# Altium integrated library lattice.IntLib: 34 symbols (part 1 of 3)
Pins are listed as number, name and electrical type; pins without a type are passive.

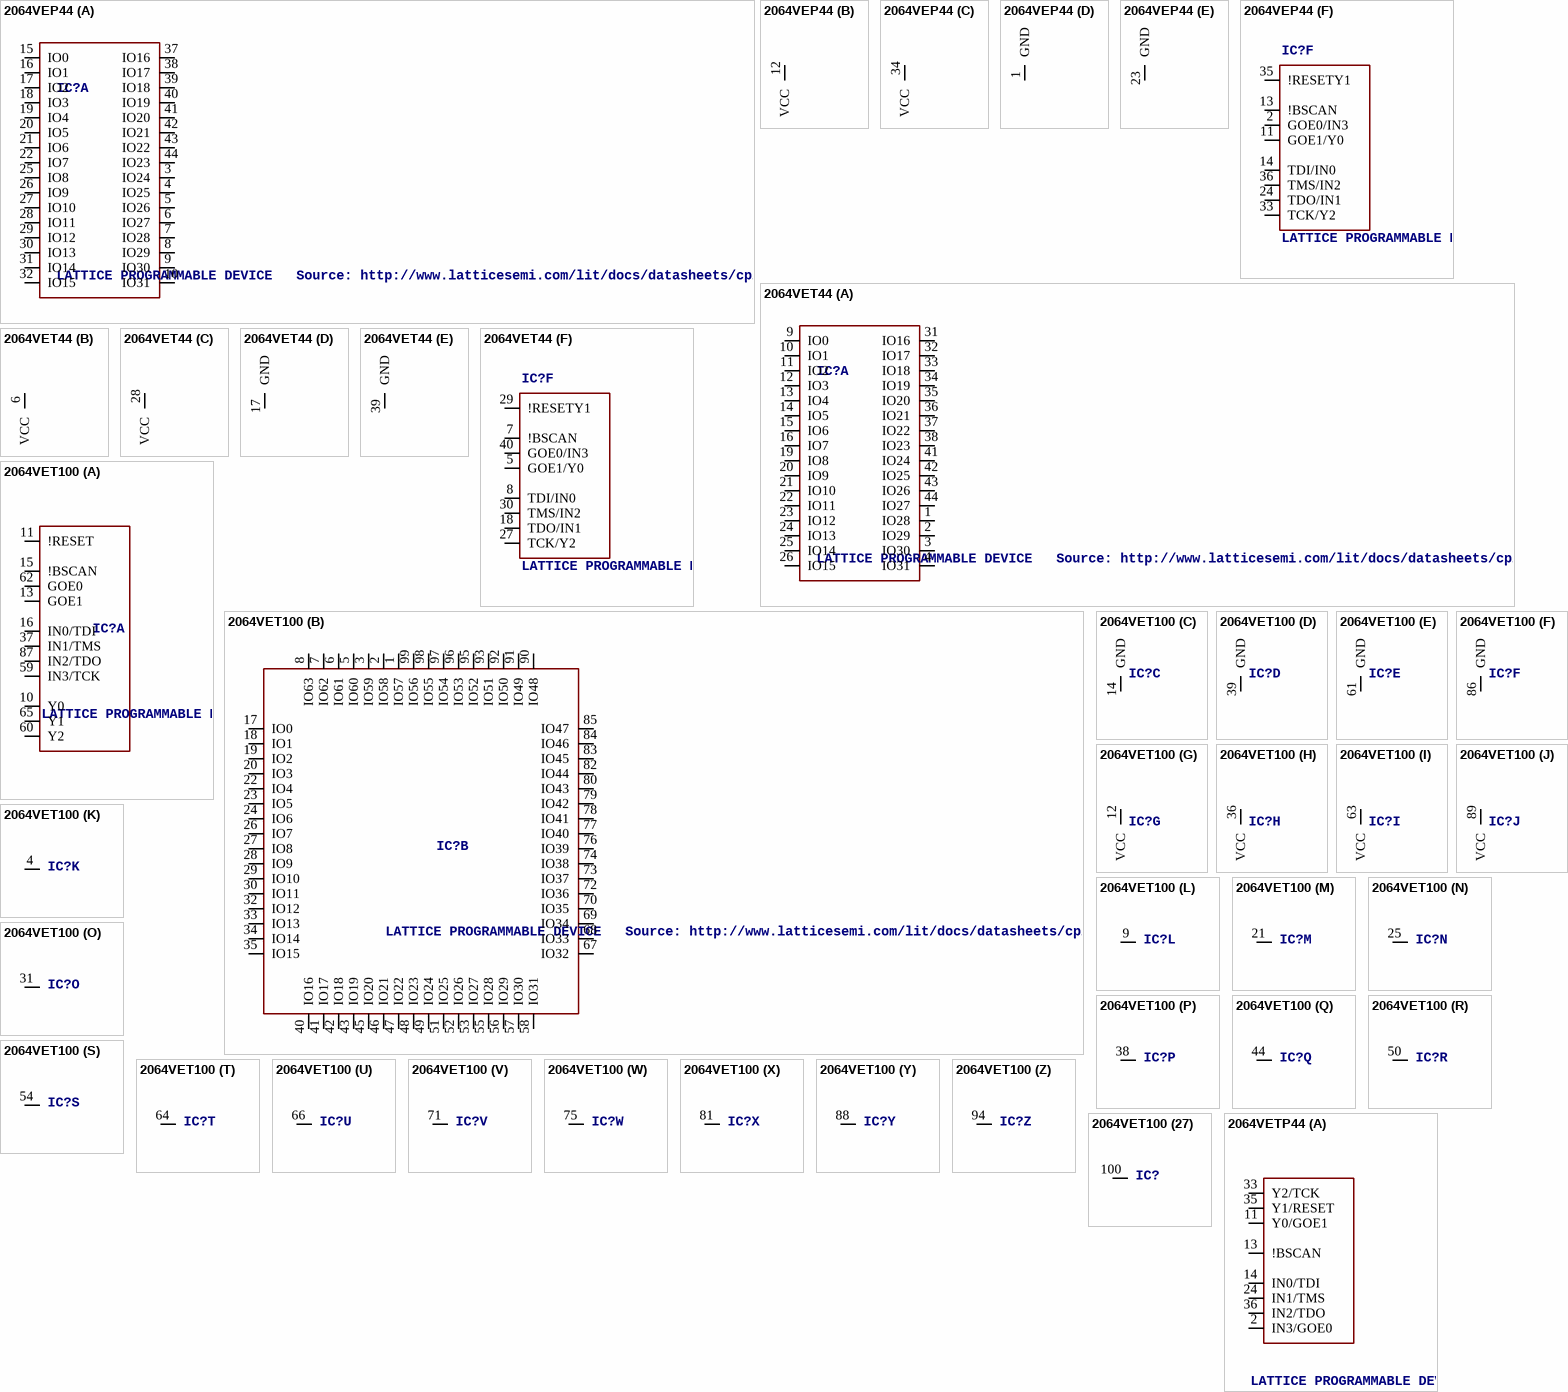
[diagram p0: symbols 2064VEP44 to 2064VETP44]

## 2064VEP44
designator IC?, comment LATTICE PROGRAMMABLE DEVICE   Source: http://www.latticesemi.com/lit/docs/datasheets/cpld/2064v.pdf / 2064ve.pdf
OC_FARNELL: unknown; OC_NEWARK: unknown
footprint PLCC44
part A pins: 3 IO24, 4 IO25, 5 IO26, 6 IO27, 7 IO28, 8 IO29, 9 IO30, 10 IO31, 15 IO0, 16 IO1, 17 IO2, 18 IO3, 19 IO4, 20 IO5, 21 IO6, 22 IO7, 25 IO8, 26 IO9, 27 IO10, 28 IO11, 29 IO12, 30 IO13, 31 IO14, 32 IO15, 37 IO16, 38 IO17, 39 IO18, 40 IO19, 41 IO20, 42 IO21, 43 IO22, 44 IO23
part B pins: 12 VCC (power)
part C pins: 34 VCC (power)
part D pins: 1 GND (power)
part E pins: 23 GND (power)
part F pins: 2 GOE0/IN3, 11 GOE1/Y0, 13 !BSCAN, 14 TDI/IN0, 24 TDO/IN1, 33 TCK/Y2, 35 !RESETY1, 36 TMS/IN2

## 2064VET44
designator IC?, comment LATTICE PROGRAMMABLE DEVICE   Source: http://www.latticesemi.com/lit/docs/datasheets/cpld/2064v.pdf / 2064ve.pdf
OC_FARNELL: unknown; OC_NEWARK: unknown
footprint TQFP44
part A pins: 1 IO28, 2 IO29, 3 IO30, 4 IO31, 9 IO0, 10 IO1, 11 IO2, 12 IO3, 13 IO4, 14 IO5, 15 IO6, 16 IO7, 19 IO8, 20 IO9, 21 IO10, 22 IO11, 23 IO12, 24 IO13, 25 IO14, 26 IO15, 31 IO16, 32 IO17, 33 IO18, 34 IO19, 35 IO20, 36 IO21, 37 IO22, 38 IO23, 41 IO24, 42 IO25, 43 IO26, 44 IO27
part B pins: 6 VCC (power)
part C pins: 28 VCC (power)
part D pins: 17 GND (power)
part E pins: 39 GND (power)
part F pins: 5 GOE1/Y0, 7 !BSCAN, 8 TDI/IN0, 18 TDO/IN1, 27 TCK/Y2, 29 !RESETY1, 30 TMS/IN2, 40 GOE0/IN3

## 2064VET100
designator IC?, comment LATTICE PROGRAMMABLE DEVICE   Source: http://www.latticesemi.com/lit/docs/datasheets/cpld/2064v.pdf / 2064ve.pdf
OC_FARNELL: unknown; OC_NEWARK: unknown
footprint TQFP100
part A pins: 10 Y0, 11 !RESET, 13 GOE1, 15 !BSCAN, 16 IN0/TDI, 37 IN1/TMS, 59 IN3/TCK, 60 Y2, 62 GOE0, 65 Y1, 87 IN2/TDO
part B pins: 1 IO57, 2 IO58, 3 IO59, 5 IO60, 6 IO61, 7 IO62, 8 IO63, 17 IO0, 18 IO1, 19 IO2, 20 IO3, 22 IO4, 23 IO5, 24 IO6, 26 IO7, 27 IO8, 28 IO9, 29 IO10, 30 IO11, 32 IO12, 33 IO13, 34 IO14, 35 IO15, 40 IO16, 41 IO17, 42 IO18, 43 IO19, 45 IO20, 46 IO21, 47 IO22, 48 IO23, 49 IO24, 51 IO25, 52 IO26, 53 IO27, 55 IO28, 56 IO29, 57 IO30, 58 IO31, 67 IO32, 68 IO33, 69 IO34, 70 IO35, 72 IO36, 73 IO37, 74 IO38, 76 IO39, 77 IO40, 78 IO41, 79 IO42, 80 IO43, 82 IO44, 83 IO45, 84 IO46, 85 IO47, 90 IO48, 91 IO49, 92 IO50, 93 IO51, 95 IO52, 96 IO53, 97 IO54, 98 IO55, 99 IO56
part C pins: 14 GND (power)
part D pins: 39 GND (power)
part E pins: 61 GND (power)
part F pins: 86 GND (power)
part G pins: 12 VCC (power)
part H pins: 36 VCC (power)
part I pins: 63 VCC (power)
part J pins: 89 VCC (power)
part K pins: 4 NC
part L pins: 9 NC
part M pins: 21 NC
part N pins: 25 NC
part O pins: 31 NC
part P pins: 38 NC
part Q pins: 44 NC
part R pins: 50 NC
part S pins: 54 NC
part T pins: 64 NC
part U pins: 66 NC
part V pins: 71 NC
part W pins: 75 NC
part X pins: 81 NC
part Y pins: 88 NC
part Z pins: 94 NC
part 27 pins: 100 NC

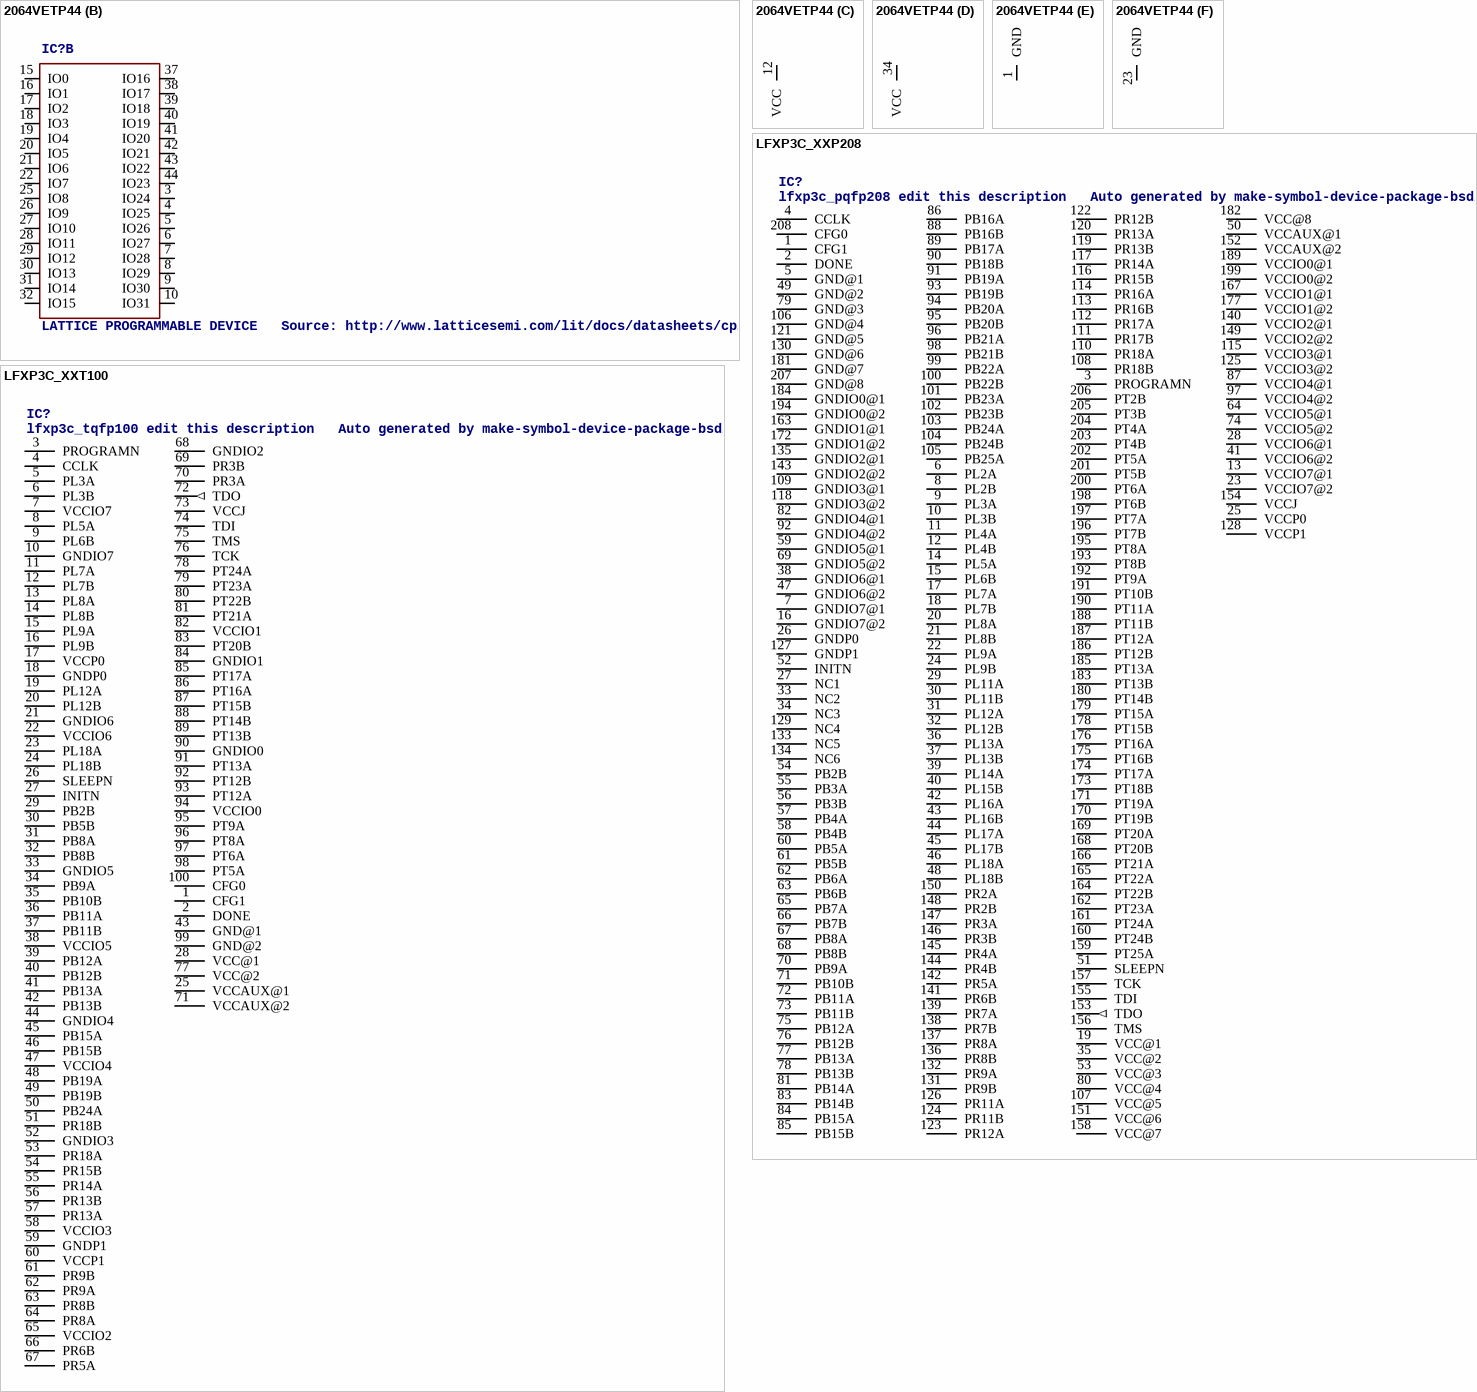
[diagram p1: symbols 2064VETP44 to LFXP3C_XXT100]

## 2064VETP44
designator IC?, comment LATTICE PROGRAMMABLE DEVICE   Source: http://www.latticesemi.com/lit/docs/datasheets/cpld/2064v.pdf / 2064ve.pdf
OC_FARNELL: unknown; OC_NEWARK: unknown
footprint PLCC44
part A pins: 2 IN3/GOE0, 11 Y0/GOE1, 13 !BSCAN, 14 IN0/TDI, 24 IN1/TMS, 33 Y2/TCK, 35 Y1/RESET, 36 IN2/TDO
part B pins: 3 IO24, 4 IO25, 5 IO26, 6 IO27, 7 IO28, 8 IO29, 9 IO30, 10 IO31, 15 IO0, 16 IO1, 17 IO2, 18 IO3, 19 IO4, 20 IO5, 21 IO6, 22 IO7, 25 IO8, 26 IO9, 27 IO10, 28 IO11, 29 IO12, 30 IO13, 31 IO14, 32 IO15, 37 IO16, 38 IO17, 39 IO18, 40 IO19, 41 IO20, 42 IO21, 43 IO22, 44 IO23
part C pins: 12 VCC (power)
part D pins: 34 VCC (power)
part E pins: 1 GND (power)
part F pins: 23 GND (power)

## LFXP3C_XXP208
designator IC?, comment lfxp3c_pqfp208 edit this description   Auto generated by make-symbol-device-package-bsdl.ulp Rev. 20 Source: lfxp3c_pqfp208.bsm
OC_FARNELL: unknown; OC_NEWARK: unknown
footprint PQFP_208
pins: 1 CFG1, 2 DONE, 3 PROGRAMN, 4 CCLK, 5 GND@1 (power), 6 PL2A, 7 GNDIO7@1 (power), 8 PL2B, 9 PL3A, 10 PL3B, 11 PL4A, 12 PL4B, 13 VCCIO7@1 (power), 14 PL5A, 15 PL6B, 16 GNDIO7@2 (power), 17 PL7A, 18 PL7B, 19 VCC@1 (power), 20 PL8A, 21 PL8B, 22 PL9A, 23 VCCIO7@2 (power), 24 PL9B, 25 VCCP0 (power), 26 GNDP0 (power), 27 NC1, 28 VCCIO6@1 (power), 29 PL11A, 30 PL11B, 31 PL12A, 32 PL12B, 33 NC2, 34 NC3, 35 VCC@2 (power), 36 PL13A, 37 PL13B, 38 GNDIO6@1 (power), 39 PL14A, 40 PL15B, 41 VCCIO6@2 (power), 42 PL16A, 43 PL16B, 44 PL17A, 45 PL17B, 46 PL18A, 47 GNDIO6@2 (power), 48 PL18B, 49 GND@2 (power), 50 VCCAUX@1 (power), 51 SLEEPN, 52 INITN, 53 VCC@3 (power), 54 PB2B, 55 PB3A, 56 PB3B, 57 PB4A, 58 PB4B, 59 GNDIO5@1 (power), 60 PB5A, 61 PB5B, 62 PB6A, 63 PB6B, 64 VCCIO5@1 (power), 65 PB7A, 66 PB7B, 67 PB8A, 68 PB8B, 69 GNDIO5@2 (power), 70 PB9A, 71 PB10B, 72 PB11A, 73 PB11B, 74 VCCIO5@2 (power), 75 PB12A, 76 PB12B, 77 PB13A, 78 PB13B, 79 GND@3 (power), 80 VCC@4 (power), 81 PB14A, 82 GNDIO4@1 (power), 83 PB14B, 84 PB15A, 85 PB15B, 86 PB16A, 87 VCCIO4@1 (power), 88 PB16B, 89 PB17A, 90 PB18B, 91 PB19A, 92 GNDIO4@2 (power), 93 PB19B, 94 PB20A, 95 PB20B, 96 PB21A, 97 VCCIO4@2 (power), 98 PB21B, 99 PB22A, 100 PB22B, 101 PB23A, 102 PB23B, 103 PB24A, 104 PB24B, 105 PB25A, 106 GND@4 (power), 107 VCC@5 (power), 108 PR18B, 109 GNDIO3@1 (power), 110 PR18A, 111 PR17B, 112 PR17A, 113 PR16B, 114 PR16A, 115 VCCIO3@1 (power), 116 PR15B, 117 PR14A, 118 GNDIO3@2 (power), 119 PR13B, 120 PR13A, 121 GND@5 (power), 122 PR12B, 123 PR12A, 124 PR11B, 125 VCCIO3@2 (power), 126 PR11A, 127 GNDP1 (power), 128 VCCP1 (power), 129 NC4, 130 GND@6 (power), 131 PR9B, 132 PR9A, 133 NC5, 134 NC6, 135 GNDIO2@1 (power), 136 PR8B, 137 PR8A, 138 PR7B, 139 PR7A, 140 VCCIO2@1 (power), 141 PR6B, 142 PR5A, 143 GNDIO2@2 (power), 144 PR4B, 145 PR4A, 146 PR3B, 147 PR3A, 148 PR2B, 149 VCCIO2@2 (power), 150 PR2A, 151 VCC@6 (power), 152 VCCAUX@2 (power), 153 TDO (out), 154 VCCJ (power), 155 TDI, 156 TMS, 157 TCK, 158 VCC@7 (power), 159 PT25A, 160 PT24B, 161 PT24A, 162 PT23A, 163 GNDIO1@1 (power), 164 PT22B, 165 PT22A, 166 PT21A, 167 VCCIO1@1 (power), 168 PT20B, 169 PT20A, 170 PT19B, 171 PT19A, 172 GNDIO1@2 (power), 173 PT18B, 174 PT17A, 175 PT16B, 176 PT16A, 177 VCCIO1@2 (power), 178 PT15B, 179 PT15A, 180 PT14B, 181 GND@7 (power), 182 VCC@8 (power), 183 PT13B, 184 GNDIO0@1 (power), 185 PT13A, 186 PT12B, 187 PT12A, 188 PT11B, 189 VCCIO0@1 (power), 190 PT11A, 191 PT10B, 192 PT9A, 193 PT8B, 194 GNDIO0@2 (power), 195 PT8A, 196 PT7B, 197 PT7A, 198 PT6B, 199 VCCIO0@2 (power), 200 PT6A, 201 PT5B, 202 PT5A, 203 PT4B, 204 PT4A, 205 PT3B, 206 PT2B, 207 GND@8 (power), 208 CFG0

## LFXP3C_XXT100
designator IC?, comment lfxp3c_tqfp100 edit this description   Auto generated by make-symbol-device-package-bsdl.ulp Rev. 20 Source: lfxp3c_tqfp100.bsm
OC_FARNELL: unknown; OC_NEWARK: unknown
footprint TQFP100
pins: 1 CFG1, 2 DONE, 3 PROGRAMN, 4 CCLK, 5 PL3A, 6 PL3B, 7 VCCIO7 (power), 8 PL5A, 9 PL6B, 10 GNDIO7 (power), 11 PL7A, 12 PL7B, 13 PL8A, 14 PL8B, 15 PL9A, 16 PL9B, 17 VCCP0 (power), 18 GNDP0 (power), 19 PL12A, 20 PL12B, 21 GNDIO6 (power), 22 VCCIO6 (power), 23 PL18A, 24 PL18B, 25 VCCAUX@1 (power), 26 SLEEPN, 27 INITN, 28 VCC@1 (power), 29 PB2B, 30 PB5B, 31 PB8A, 32 PB8B, 33 GNDIO5 (power), 34 PB9A, 35 PB10B, 36 PB11A, 37 PB11B, 38 VCCIO5 (power), 39 PB12A, 40 PB12B, 41 PB13A, 42 PB13B, 43 GND@1 (power), 44 GNDIO4 (power), 45 PB15A, 46 PB15B, 47 VCCIO4 (power), 48 PB19A, 49 PB19B, 50 PB24A, 51 PR18B, 52 GNDIO3 (power), 53 PR18A, 54 PR15B, 55 PR14A, 56 PR13B, 57 PR13A, 58 VCCIO3 (power), 59 GNDP1 (power), 60 VCCP1 (power), 61 PR9B, 62 PR9A, 63 PR8B, 64 PR8A, 65 VCCIO2 (power), 66 PR6B, 67 PR5A, 68 GNDIO2 (power), 69 PR3B, 70 PR3A, 71 VCCAUX@2 (power), 72 TDO (out), 73 VCCJ (power), 74 TDI, 75 TMS, 76 TCK, 77 VCC@2 (power), 78 PT24A, 79 PT23A, 80 PT22B, 81 PT21A, 82 VCCIO1 (power), 83 PT20B, 84 GNDIO1 (power), 85 PT17A, 86 PT16A, 87 PT15B, 88 PT14B, 89 PT13B, 90 GNDIO0 (power), 91 PT13A, 92 PT12B, 93 PT12A, 94 VCCIO0 (power), 95 PT9A, 96 PT8A, 97 PT6A, 98 PT5A, 99 GND@2 (power), 100 CFG0

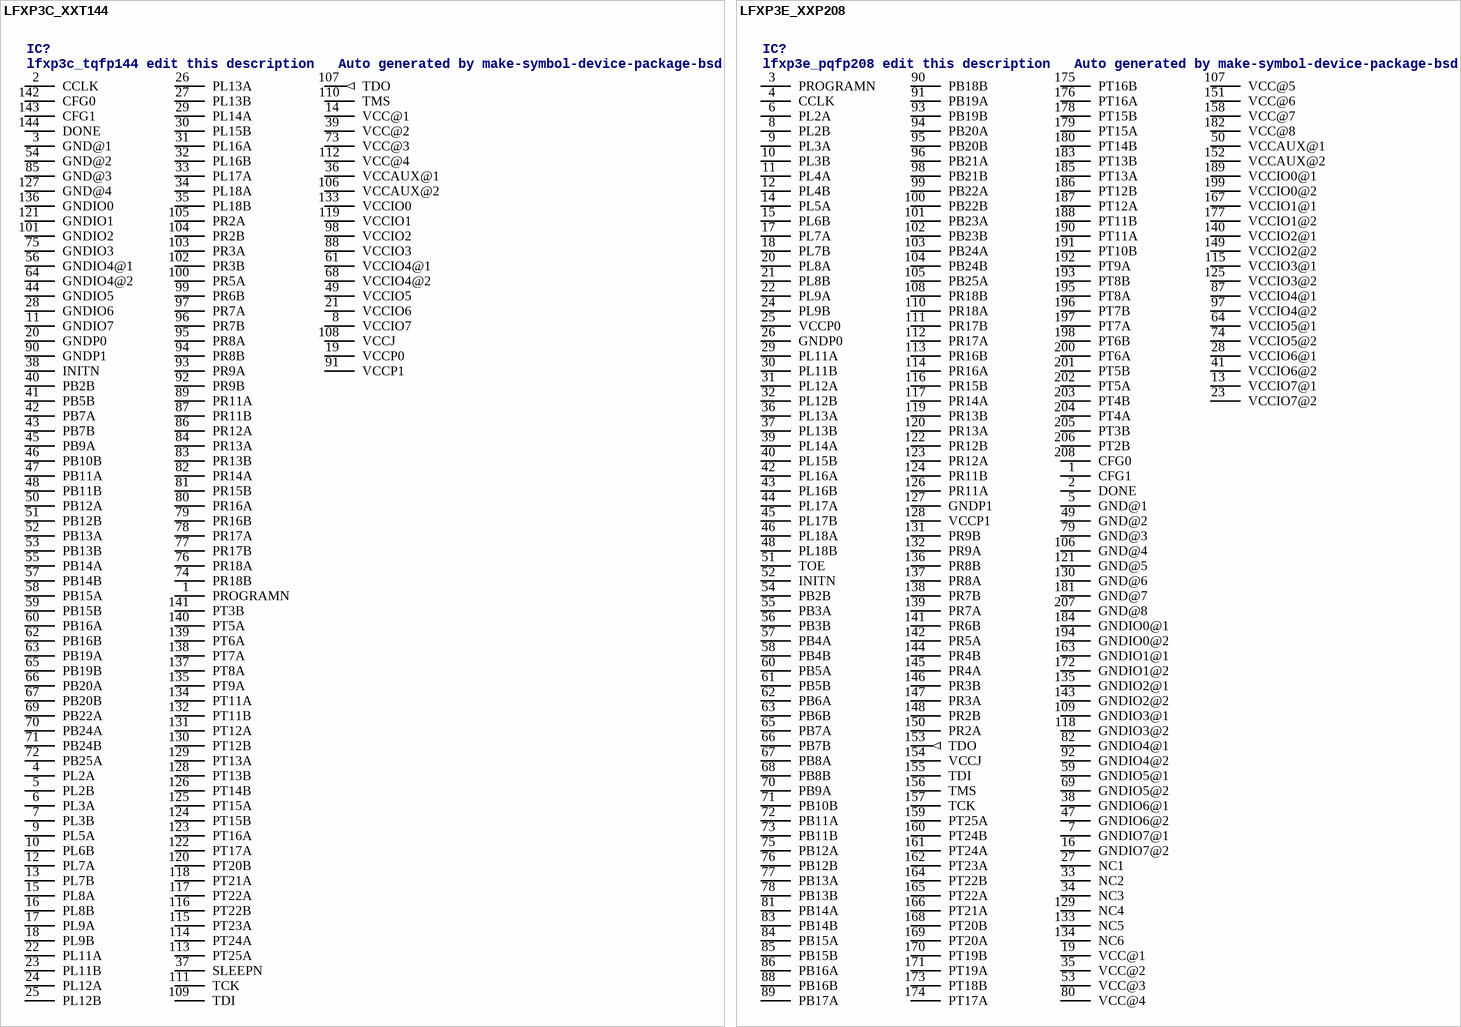
[diagram p2: symbols LFXP3C_XXT144 to LFXP3E_XXP208]

## LFXP3C_XXT144
designator IC?, comment lfxp3c_tqfp144 edit this description   Auto generated by make-symbol-device-package-bsdl.ulp Rev. 20 Source: lfxp3c_tqfp144.bsm
OC_FARNELL: unknown; OC_NEWARK: unknown
footprint TQFP144
pins: 1 PROGRAMN, 2 CCLK, 3 GND@1 (power), 4 PL2A, 5 PL2B, 6 PL3A, 7 PL3B, 8 VCCIO7 (power), 9 PL5A, 10 PL6B, 11 GNDIO7 (power), 12 PL7A, 13 PL7B, 14 VCC@1 (power), 15 PL8A, 16 PL8B, 17 PL9A, 18 PL9B, 19 VCCP0 (power), 20 GNDP0 (power), 21 VCCIO6 (power), 22 PL11A, 23 PL11B, 24 PL12A, 25 PL12B, 26 PL13A, 27 PL13B, 28 GNDIO6 (power), 29 PL14A, 30 PL15B, 31 PL16A, 32 PL16B, 33 PL17A, 34 PL18A, 35 PL18B, 36 VCCAUX@1 (power), 37 SLEEPN, 38 INITN, 39 VCC@2 (power), 40 PB2B, 41 PB5B, 42 PB7A, 43 PB7B, 44 GNDIO5 (power), 45 PB9A, 46 PB10B, 47 PB11A, 48 PB11B, 49 VCCIO5 (power), 50 PB12A, 51 PB12B, 52 PB13A, 53 PB13B, 54 GND@2 (power), 55 PB14A, 56 GNDIO4@1 (power), 57 PB14B, 58 PB15A, 59 PB15B, 60 PB16A, 61 VCCIO4@1 (power), 62 PB16B, 63 PB19A, 64 GNDIO4@2 (power), 65 PB19B, 66 PB20A, 67 PB20B, 68 VCCIO4@2 (power), 69 PB22A, 70 PB24A, 71 PB24B, 72 PB25A, 73 VCC@3 (power), 74 PR18B, 75 GNDIO3 (power), 76 PR18A, 77 PR17B, 78 PR17A, 79 PR16B, 80 PR16A, 81 PR15B, 82 PR14A, 83 PR13B, 84 PR13A, 85 GND@3 (power), 86 PR12A, 87 PR11B, 88 VCCIO3 (power), 89 PR11A, 90 GNDP1 (power), 91 VCCP1 (power), 92 PR9B, 93 PR9A, 94 PR8B, 95 PR8A, 96 PR7B, 97 PR7A, 98 VCCIO2 (power), 99 PR6B, 100 PR5A, 101 GNDIO2 (power), 102 PR3B, 103 PR3A, 104 PR2B, 105 PR2A, 106 VCCAUX@2 (power), 107 TDO (out), 108 VCCJ (power), 109 TDI, 110 TMS, 111 TCK, 112 VCC@4 (power), 113 PT25A, 114 PT24A, 115 PT23A, 116 PT22B, 117 PT22A, 118 PT21A, 119 VCCIO1 (power), 120 PT20B, 121 GNDIO1 (power), 122 PT17A, 123 PT16A, 124 PT15B, 125 PT15A, 126 PT14B, 127 GND@4 (power), 128 PT13B, 129 PT13A, 130 PT12B, 131 PT12A, 132 PT11B, 133 VCCIO0 (power), 134 PT11A, 135 PT9A, 136 GNDIO0 (power), 137 PT8A, 138 PT7A, 139 PT6A, 140 PT5A, 141 PT3B, 142 CFG0, 143 CFG1, 144 DONE

## LFXP3E_XXP208
designator IC?, comment lfxp3e_pqfp208 edit this description   Auto generated by make-symbol-device-package-bsdl.ulp Rev. 20 Source: lfxp3e_pqfp208.bsm
OC_FARNELL: unknown; OC_NEWARK: unknown
footprint PQFP_208
pins: 1 CFG1, 2 DONE, 3 PROGRAMN, 4 CCLK, 5 GND@1 (power), 6 PL2A, 7 GNDIO7@1 (power), 8 PL2B, 9 PL3A, 10 PL3B, 11 PL4A, 12 PL4B, 13 VCCIO7@1 (power), 14 PL5A, 15 PL6B, 16 GNDIO7@2 (power), 17 PL7A, 18 PL7B, 19 VCC@1 (power), 20 PL8A, 21 PL8B, 22 PL9A, 23 VCCIO7@2 (power), 24 PL9B, 25 VCCP0 (power), 26 GNDP0 (power), 27 NC1, 28 VCCIO6@1 (power), 29 PL11A, 30 PL11B, 31 PL12A, 32 PL12B, 33 NC2, 34 NC3, 35 VCC@2 (power), 36 PL13A, 37 PL13B, 38 GNDIO6@1 (power), 39 PL14A, 40 PL15B, 41 VCCIO6@2 (power), 42 PL16A, 43 PL16B, 44 PL17A, 45 PL17B, 46 PL18A, 47 GNDIO6@2 (power), 48 PL18B, 49 GND@2 (power), 50 VCCAUX@1 (power), 51 TOE, 52 INITN, 53 VCC@3 (power), 54 PB2B, 55 PB3A, 56 PB3B, 57 PB4A, 58 PB4B, 59 GNDIO5@1 (power), 60 PB5A, 61 PB5B, 62 PB6A, 63 PB6B, 64 VCCIO5@1 (power), 65 PB7A, 66 PB7B, 67 PB8A, 68 PB8B, 69 GNDIO5@2 (power), 70 PB9A, 71 PB10B, 72 PB11A, 73 PB11B, 74 VCCIO5@2 (power), 75 PB12A, 76 PB12B, 77 PB13A, 78 PB13B, 79 GND@3 (power), 80 VCC@4 (power), 81 PB14A, 82 GNDIO4@1 (power), 83 PB14B, 84 PB15A, 85 PB15B, 86 PB16A, 87 VCCIO4@1 (power), 88 PB16B, 89 PB17A, 90 PB18B, 91 PB19A, 92 GNDIO4@2 (power), 93 PB19B, 94 PB20A, 95 PB20B, 96 PB21A, 97 VCCIO4@2 (power), 98 PB21B, 99 PB22A, 100 PB22B, 101 PB23A, 102 PB23B, 103 PB24A, 104 PB24B, 105 PB25A, 106 GND@4 (power), 107 VCC@5 (power), 108 PR18B, 109 GNDIO3@1 (power), 110 PR18A, 111 PR17B, 112 PR17A, 113 PR16B, 114 PR16A, 115 VCCIO3@1 (power), 116 PR15B, 117 PR14A, 118 GNDIO3@2 (power), 119 PR13B, 120 PR13A, 121 GND@5 (power), 122 PR12B, 123 PR12A, 124 PR11B, 125 VCCIO3@2 (power), 126 PR11A, 127 GNDP1 (power), 128 VCCP1 (power), 129 NC4, 130 GND@6 (power), 131 PR9B, 132 PR9A, 133 NC5, 134 NC6, 135 GNDIO2@1 (power), 136 PR8B, 137 PR8A, 138 PR7B, 139 PR7A, 140 VCCIO2@1 (power), 141 PR6B, 142 PR5A, 143 GNDIO2@2 (power), 144 PR4B, 145 PR4A, 146 PR3B, 147 PR3A, 148 PR2B, 149 VCCIO2@2 (power), 150 PR2A, 151 VCC@6 (power), 152 VCCAUX@2 (power), 153 TDO (out), 154 VCCJ (power), 155 TDI, 156 TMS, 157 TCK, 158 VCC@7 (power), 159 PT25A, 160 PT24B, 161 PT24A, 162 PT23A, 163 GNDIO1@1 (power), 164 PT22B, 165 PT22A, 166 PT21A, 167 VCCIO1@1 (power), 168 PT20B, 169 PT20A, 170 PT19B, 171 PT19A, 172 GNDIO1@2 (power), 173 PT18B, 174 PT17A, 175 PT16B, 176 PT16A, 177 VCCIO1@2 (power), 178 PT15B, 179 PT15A, 180 PT14B, 181 GND@7 (power), 182 VCC@8 (power), 183 PT13B, 184 GNDIO0@1 (power), 185 PT13A, 186 PT12B, 187 PT12A, 188 PT11B, 189 VCCIO0@1 (power), 190 PT11A, 191 PT10B, 192 PT9A, 193 PT8B, 194 GNDIO0@2 (power), 195 PT8A, 196 PT7B, 197 PT7A, 198 PT6B, 199 VCCIO0@2 (power), 200 PT6A, 201 PT5B, 202 PT5A, 203 PT4B, 204 PT4A, 205 PT3B, 206 PT2B, 207 GND@8 (power), 208 CFG0

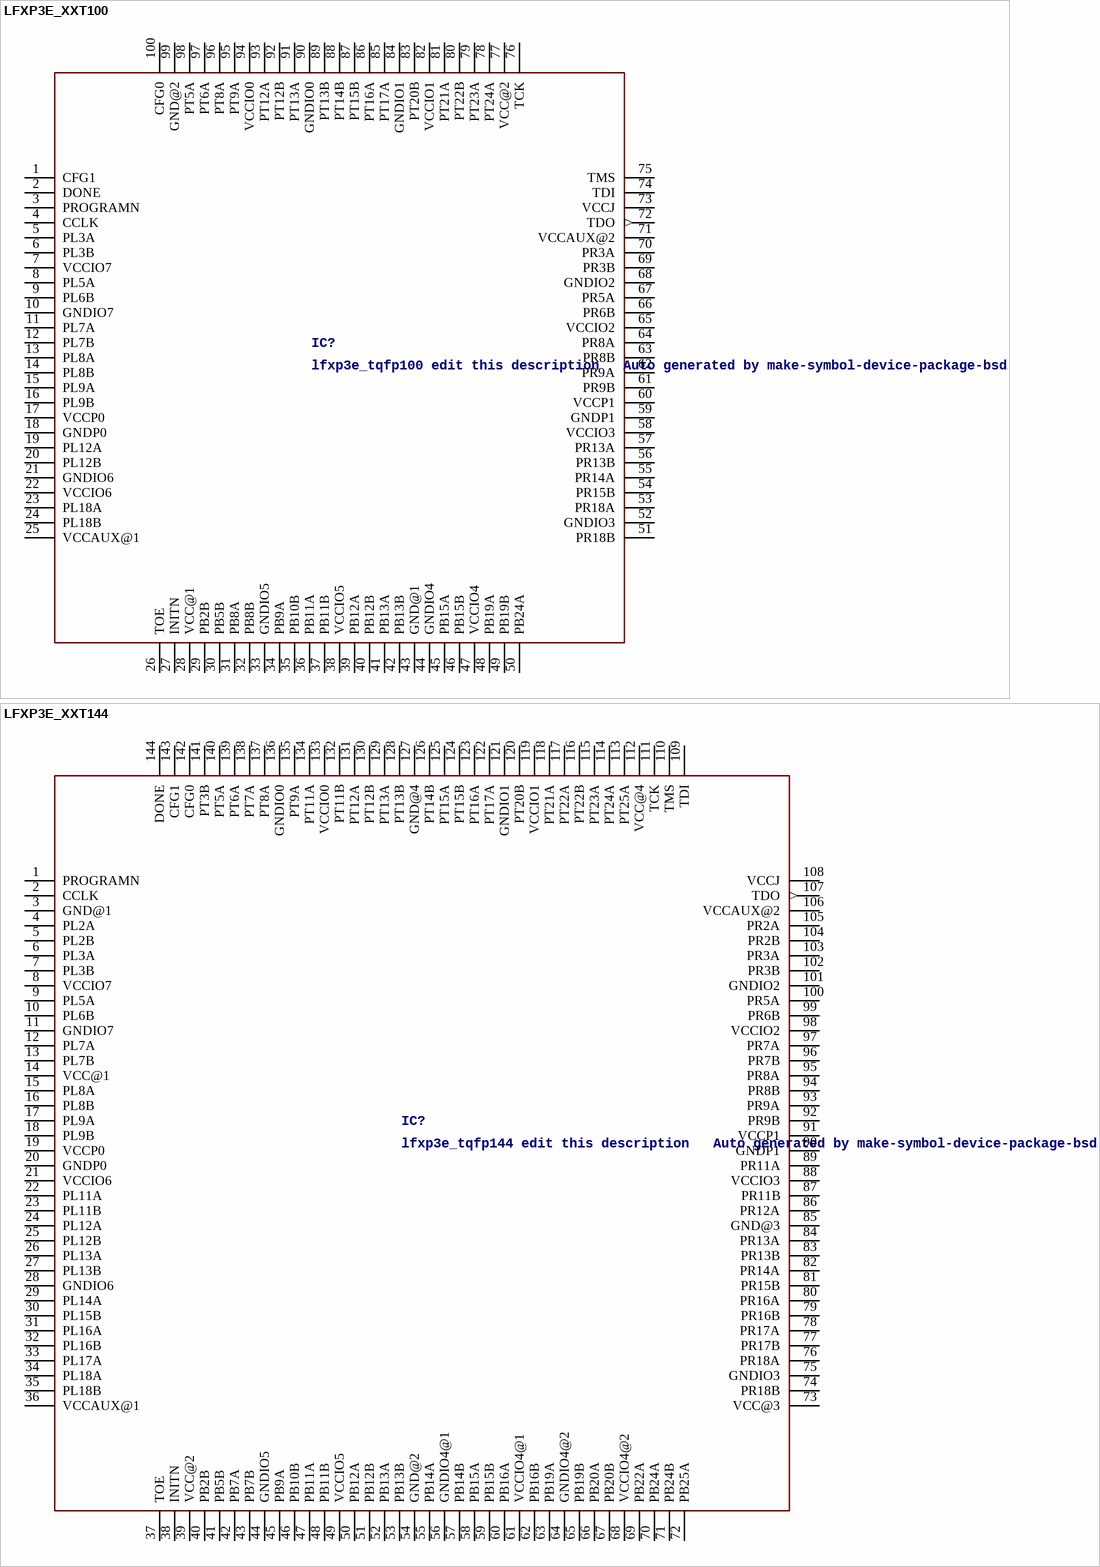
[diagram p3: symbols LFXP3E_XXT100 to LFXP3E_XXT144]

## LFXP3E_XXT100
designator IC?, comment lfxp3e_tqfp100 edit this description   Auto generated by make-symbol-device-package-bsdl.ulp Rev. 20 Source: lfxp3e_tqfp100.bsm
OC_FARNELL: unknown; OC_NEWARK: unknown
footprint TQFP100
pins: 1 CFG1, 2 DONE, 3 PROGRAMN, 4 CCLK, 5 PL3A, 6 PL3B, 7 VCCIO7 (power), 8 PL5A, 9 PL6B, 10 GNDIO7 (power), 11 PL7A, 12 PL7B, 13 PL8A, 14 PL8B, 15 PL9A, 16 PL9B, 17 VCCP0 (power), 18 GNDP0 (power), 19 PL12A, 20 PL12B, 21 GNDIO6 (power), 22 VCCIO6 (power), 23 PL18A, 24 PL18B, 25 VCCAUX@1 (power), 26 TOE, 27 INITN, 28 VCC@1 (power), 29 PB2B, 30 PB5B, 31 PB8A, 32 PB8B, 33 GNDIO5 (power), 34 PB9A, 35 PB10B, 36 PB11A, 37 PB11B, 38 VCCIO5 (power), 39 PB12A, 40 PB12B, 41 PB13A, 42 PB13B, 43 GND@1 (power), 44 GNDIO4 (power), 45 PB15A, 46 PB15B, 47 VCCIO4 (power), 48 PB19A, 49 PB19B, 50 PB24A, 51 PR18B, 52 GNDIO3 (power), 53 PR18A, 54 PR15B, 55 PR14A, 56 PR13B, 57 PR13A, 58 VCCIO3 (power), 59 GNDP1 (power), 60 VCCP1 (power), 61 PR9B, 62 PR9A, 63 PR8B, 64 PR8A, 65 VCCIO2 (power), 66 PR6B, 67 PR5A, 68 GNDIO2 (power), 69 PR3B, 70 PR3A, 71 VCCAUX@2 (power), 72 TDO (out), 73 VCCJ (power), 74 TDI, 75 TMS, 76 TCK, 77 VCC@2 (power), 78 PT24A, 79 PT23A, 80 PT22B, 81 PT21A, 82 VCCIO1 (power), 83 PT20B, 84 GNDIO1 (power), 85 PT17A, 86 PT16A, 87 PT15B, 88 PT14B, 89 PT13B, 90 GNDIO0 (power), 91 PT13A, 92 PT12B, 93 PT12A, 94 VCCIO0 (power), 95 PT9A, 96 PT8A, 97 PT6A, 98 PT5A, 99 GND@2 (power), 100 CFG0

## LFXP3E_XXT144
designator IC?, comment lfxp3e_tqfp144 edit this description   Auto generated by make-symbol-device-package-bsdl.ulp Rev. 20 Source: lfxp3e_tqfp144.bsm
OC_FARNELL: unknown; OC_NEWARK: unknown
footprint TQFP144
pins: 1 PROGRAMN, 2 CCLK, 3 GND@1 (power), 4 PL2A, 5 PL2B, 6 PL3A, 7 PL3B, 8 VCCIO7 (power), 9 PL5A, 10 PL6B, 11 GNDIO7 (power), 12 PL7A, 13 PL7B, 14 VCC@1 (power), 15 PL8A, 16 PL8B, 17 PL9A, 18 PL9B, 19 VCCP0 (power), 20 GNDP0 (power), 21 VCCIO6 (power), 22 PL11A, 23 PL11B, 24 PL12A, 25 PL12B, 26 PL13A, 27 PL13B, 28 GNDIO6 (power), 29 PL14A, 30 PL15B, 31 PL16A, 32 PL16B, 33 PL17A, 34 PL18A, 35 PL18B, 36 VCCAUX@1 (power), 37 TOE, 38 INITN, 39 VCC@2 (power), 40 PB2B, 41 PB5B, 42 PB7A, 43 PB7B, 44 GNDIO5 (power), 45 PB9A, 46 PB10B, 47 PB11A, 48 PB11B, 49 VCCIO5 (power), 50 PB12A, 51 PB12B, 52 PB13A, 53 PB13B, 54 GND@2 (power), 55 PB14A, 56 GNDIO4@1 (power), 57 PB14B, 58 PB15A, 59 PB15B, 60 PB16A, 61 VCCIO4@1 (power), 62 PB16B, 63 PB19A, 64 GNDIO4@2 (power), 65 PB19B, 66 PB20A, 67 PB20B, 68 VCCIO4@2 (power), 69 PB22A, 70 PB24A, 71 PB24B, 72 PB25A, 73 VCC@3 (power), 74 PR18B, 75 GNDIO3 (power), 76 PR18A, 77 PR17B, 78 PR17A, 79 PR16B, 80 PR16A, 81 PR15B, 82 PR14A, 83 PR13B, 84 PR13A, 85 GND@3 (power), 86 PR12A, 87 PR11B, 88 VCCIO3 (power), 89 PR11A, 90 GNDP1 (power), 91 VCCP1 (power), 92 PR9B, 93 PR9A, 94 PR8B, 95 PR8A, 96 PR7B, 97 PR7A, 98 VCCIO2 (power), 99 PR6B, 100 PR5A, 101 GNDIO2 (power), 102 PR3B, 103 PR3A, 104 PR2B, 105 PR2A, 106 VCCAUX@2 (power), 107 TDO (out), 108 VCCJ (power), 109 TDI, 110 TMS, 111 TCK, 112 VCC@4 (power), 113 PT25A, 114 PT24A, 115 PT23A, 116 PT22B, 117 PT22A, 118 PT21A, 119 VCCIO1 (power), 120 PT20B, 121 GNDIO1 (power), 122 PT17A, 123 PT16A, 124 PT15B, 125 PT15A, 126 PT14B, 127 GND@4 (power), 128 PT13B, 129 PT13A, 130 PT12B, 131 PT12A, 132 PT11B, 133 VCCIO0 (power), 134 PT11A, 135 PT9A, 136 GNDIO0 (power), 137 PT8A, 138 PT7A, 139 PT6A, 140 PT5A, 141 PT3B, 142 CFG0, 143 CFG1, 144 DONE

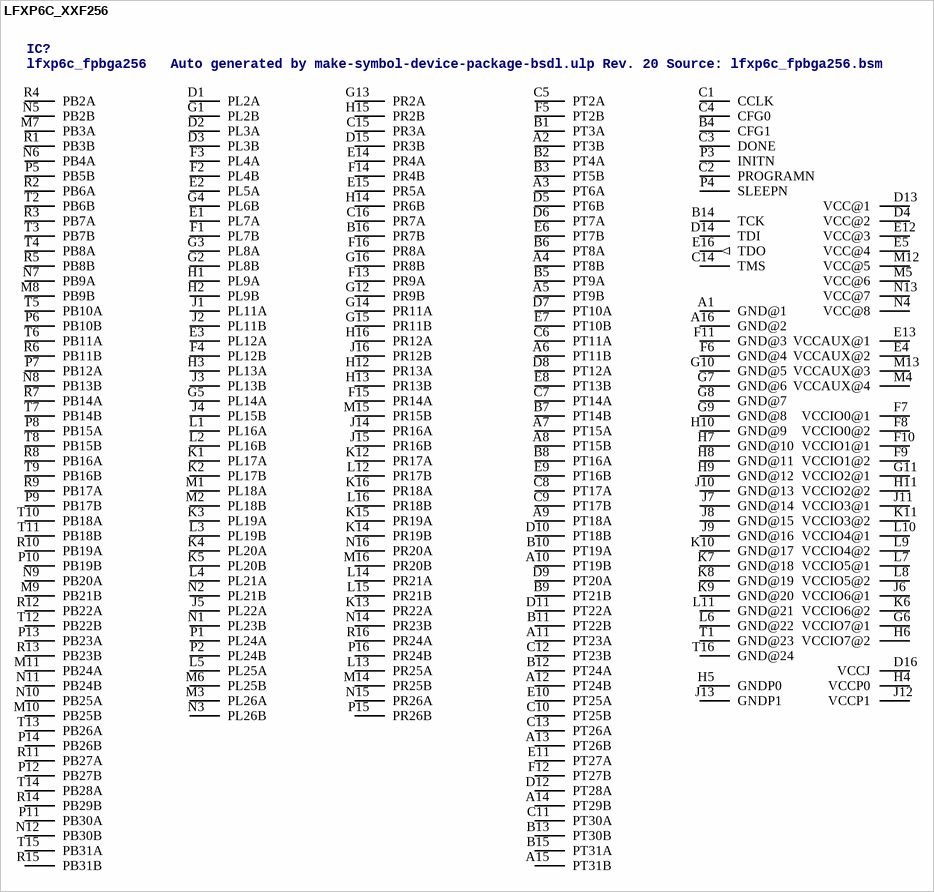
[diagram p4: symbol LFXP6C_XXF256]

## LFXP6C_XXF256
designator IC?, comment lfxp6c_fpbga256   Auto generated by make-symbol-device-package-bsdl.ulp Rev. 20 Source: lfxp6c_fpbga256.bsm
OC_FARNELL: unknown; OC_NEWARK: unknown
footprint FPBGA_256
pins: A1 GND@1 (power), A2 PT3B, A3 PT6A, A4 PT8B, A5 PT9B, A6 PT11B, A7 PT15A, A8 PT15B, A9 PT18A, A10 PT19B, A11 PT23A, A12 PT24B, A13 PT26B, A14 PT29B, A15 PT31B, A16 GND@2 (power), B1 PT3A, B2 PT4A, B3 PT5B, B4 CFG1, B5 PT9A, B6 PT8A, B7 PT14B, B8 PT16A, B9 PT21B, B10 PT19A, B11 PT22B, B12 PT24A, B13 PT30B, B14 TCK, B15 PT31A, B16 PR7B, C1 CCLK, C2 PROGRAMN, C3 DONE, C4 CFG0, C5 PT2A, C6 PT11A, C7 PT14A, C8 PT17A, C9 PT17B, C10 PT25B, C11 PT30A, C12 PT23B, C13 PT26A, C14 TMS, C15 PR3A, C16 PR7A, D1 PL2A, D2 PL3A, D3 PL3B, D4 VCC@2 (power), D5 PT6B, D6 PT7A, D7 PT10A, D8 PT12A, D9 PT20A, D10 PT18B, D11 PT22A, D12 PT28A, D13 VCC@1 (power), D14 TDI, D15 PR3B, D16 VCCJ (power), E1 PL7A, E2 PL5A, E3 PL12A, E4 VCCAUX@2 (power), E5 VCC@4 (power), E6 PT7B, E7 PT10B, E8 PT13B, E9 PT16B, E10 PT25A, E11 PT27A, E12 VCC@3 (power), E13 VCCAUX@1 (power), E14 PR4A, E15 PR5A, E16 TDO (out), F1 PL7B, F2 PL4B, F3 PL4A, F4 PL12B, F5 PT2B, F6 GND@4 (power), F7 VCCIO0@1 (power), F8 VCCIO0@2 (power), F9 VCCIO1@2 (power), F10 VCCIO1@1 (power), F11 GND@3 (power), F12 PT27B, F13 PR9A, F14 PR4B, F15 PR14A, F16 PR8A, G1 PL2B, G2 PL8B, G3 PL8A, G4 PL6B, G5 PL14A, G6 VCCIO7@1 (power), G7 GND@6 (power), G8 GND@7 (power), G9 GND@8 (power), G10 GND@5 (power), G11 VCCIO2@1 (power), G12 PR9B, G13 PR2A, G14 PR11A, G15 PR11B, G16 PR8B, H1 PL9A, H2 PL9B, H3 PL13A, H4 VCCP0 (power), H5 GNDP0 (power), H6 VCCIO7@2 (power), H7 GND@10 (power), H8 GND@11 (power), H9 GND@12 (power), H10 GND@9 (power), H11 VCCIO2@2 (power), H12 PR13A, H13 PR13B, H14 PR6B, H15 PR2B, H16 PR12A, J1 PL11A, J2 PL11B, J3 PL13B, J4 PL15B, J5 PL22A, J6 VCCIO6@1 (power), J7 GND@14 (power), J8 GND@15 (power), J9 GND@16 (power), J10 GND@13 (power), J11 VCCIO3@1 (power), J12 VCCP1 (power), J13 GNDP1 (power), J14 PR16A, J15 PR16B, J16 PR12B, K1 PL17A, K2 PL17B, K3 PL19A, K4 PL20A, K5 PL20B, K6 VCCIO6@2 (power), K7 GND@18 (power), K8 GND@19 (power), K9 GND@20 (power), K10 GND@17 (power), K11 VCCIO3@2 (power), K12 PR17A, K13 PR22A, K14 PR19B, K15 PR19A, K16 PR18A, L1 PL16A, L2 PL16B, L3 PL19B, L4 PL21A, L5 PL25A, L6 GND@22 (power), L7 VCCIO5@1 (power), L8 VCCIO5@2 (power), L9 VCCIO4@2 (power), L10 VCCIO4@1 (power), L11 GND@21 (power), L12 PR17B, L13 PR25A, L14 PR21A, L15 PR21B, L16 PR18B, M1 PL18A, M2 PL18B, M3 PL26A, M4 VCCAUX@4 (power), M5 VCC@6 (power), M6 PL25B, M7 PB3A, M8 PB9B, M9 PB21B, M10 PB25B, M11 PB24A, M12 VCC@5 (power), M13 VCCAUX@3 (power), M14 PR25B, M15 PR15B, M16 PR20B, N1 PL23B, N2 PL21B, N3 PL26B, N4 VCC@8 (power), N5 PB2B, N6 PB4A, N7 PB9A, N8 PB13B, N9 PB20A, N10 PB25A, N11 PB24B, N12 PB30B, N13 VCC@7 (power), N14 PR23B, N15 PR26A, N16 PR20A, P1 PL24A, P2 PL24B, P3 INITN, P4 SLEEPN, P5 PB5B, P6 PB10B, P7 PB12A, P8 PB15A, P9 PB17B, P10 PB19B, P11 PB30A, P12 PB27B, P13 PB23A, P14 PB26B, P15 PR26B, P16 PR24B, R1 PB3B, R2 PB6A, R3 PB7A, R4 PB2A, R5 PB8B, R6 PB11B, R7 PB14A, R8 PB16A, R9 PB17A, R10 PB19A, R11 PB27A, R12 PB22A, R13 PB23B, R14 PB29B, R15 PB31B, R16 PR24A, T1 GND@23 (power), T2 PB6B, T3 PB7B, T4 PB8A, T5 PB10A, T6 PB11A, T7 PB14B, T8 PB15B, T9 PB16B, T10 PB18A, T11 PB18B, T12 PB22B, T13 PB26A, T14 PB28A, T15 PB31A, T16 GND@24 (power)

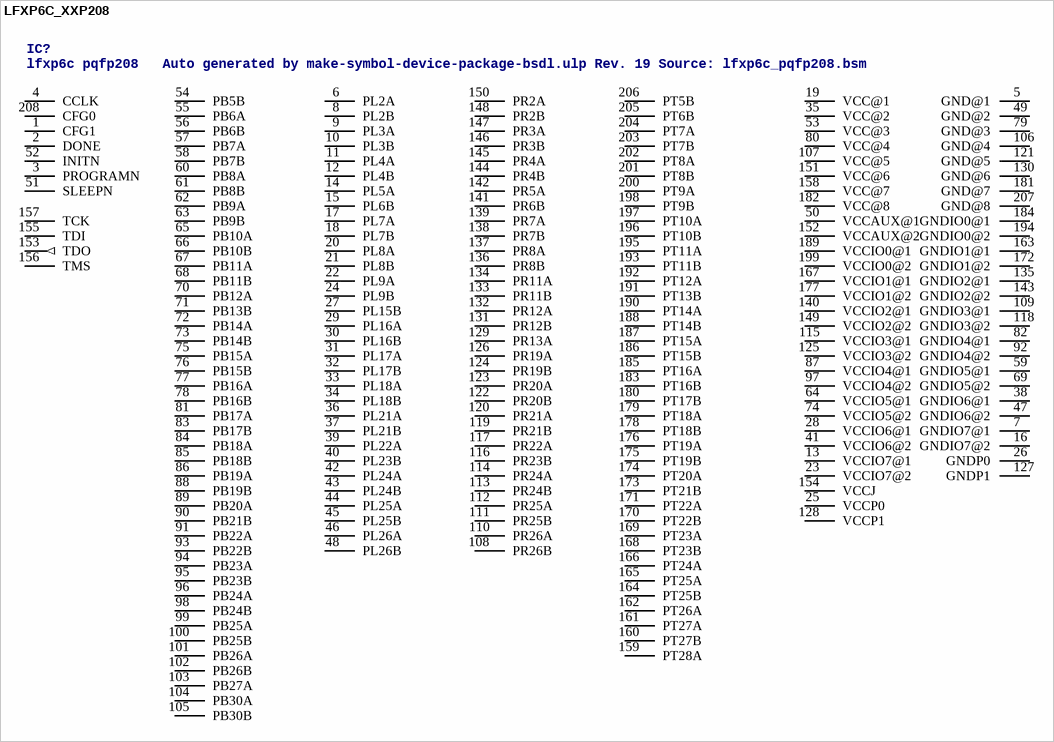
[diagram p5: symbol LFXP6C_XXP208]

## LFXP6C_XXP208
designator IC?, comment lfxp6c pqfp208   Auto generated by make-symbol-device-package-bsdl.ulp Rev. 19 Source: lfxp6c_pqfp208.bsm
OC_FARNELL: unknown; OC_NEWARK: unknown
footprint PQFP_208
pins: 1 CFG1, 2 DONE, 3 PROGRAMN, 4 CCLK, 5 GND@1 (power), 6 PL2A, 7 GNDIO7@1 (power), 8 PL2B, 9 PL3A, 10 PL3B, 11 PL4A, 12 PL4B, 13 VCCIO7@1 (power), 14 PL5A, 15 PL6B, 16 GNDIO7@2 (power), 17 PL7A, 18 PL7B, 19 VCC@1 (power), 20 PL8A, 21 PL8B, 22 PL9A, 23 VCCIO7@2 (power), 24 PL9B, 25 VCCP0 (power), 26 GNDP0 (power), 27 PL15B, 28 VCCIO6@1 (power), 29 PL16A, 30 PL16B, 31 PL17A, 32 PL17B, 33 PL18A, 34 PL18B, 35 VCC@2 (power), 36 PL21A, 37 PL21B, 38 GNDIO6@1 (power), 39 PL22A, 40 PL23B, 41 VCCIO6@2 (power), 42 PL24A, 43 PL24B, 44 PL25A, 45 PL25B, 46 PL26A, 47 GNDIO6@2 (power), 48 PL26B, 49 GND@2 (power), 50 VCCAUX@1 (power), 51 SLEEPN, 52 INITN, 53 VCC@3 (power), 54 PB5B, 55 PB6A, 56 PB6B, 57 PB7A, 58 PB7B, 59 GNDIO5@1 (power), 60 PB8A, 61 PB8B, 62 PB9A, 63 PB9B, 64 VCCIO5@1 (power), 65 PB10A, 66 PB10B, 67 PB11A, 68 PB11B, 69 GNDIO5@2 (power), 70 PB12A, 71 PB13B, 72 PB14A, 73 PB14B, 74 VCCIO5@2 (power), 75 PB15A, 76 PB15B, 77 PB16A, 78 PB16B, 79 GND@3 (power), 80 VCC@4 (power), 81 PB17A, 82 GNDIO4@1 (power), 83 PB17B, 84 PB18A, 85 PB18B, 86 PB19A, 87 VCCIO4@1 (power), 88 PB19B, 89 PB20A, 90 PB21B, 91 PB22A, 92 GNDIO4@2 (power), 93 PB22B, 94 PB23A, 95 PB23B, 96 PB24A, 97 VCCIO4@2 (power), 98 PB24B, 99 PB25A, 100 PB25B, 101 PB26A, 102 PB26B, 103 PB27A, 104 PB30A, 105 PB30B, 106 GND@4 (power), 107 VCC@5 (power), 108 PR26B, 109 GNDIO3@1 (power), 110 PR26A, 111 PR25B, 112 PR25A, 113 PR24B, 114 PR24A, 115 VCCIO3@1 (power), 116 PR23B, 117 PR22A, 118 GNDIO3@2 (power), 119 PR21B, 120 PR21A, 121 GND@5 (power), 122 PR20B, 123 PR20A, 124 PR19B, 125 VCCIO3@2 (power), 126 PR19A, 127 GNDP1 (power), 128 VCCP1 (power), 129 PR13A, 130 GND@6 (power), 131 PR12B, 132 PR12A, 133 PR11B, 134 PR11A, 135 GNDIO2@1 (power), 136 PR8B, 137 PR8A, 138 PR7B, 139 PR7A, 140 VCCIO2@1 (power), 141 PR6B, 142 PR5A, 143 GNDIO2@2 (power), 144 PR4B, 145 PR4A, 146 PR3B, 147 PR3A, 148 PR2B, 149 VCCIO2@2 (power), 150 PR2A, 151 VCC@6 (power), 152 VCCAUX@2 (power), 153 TDO (out), 154 VCCJ (power), 155 TDI, 156 TMS, 157 TCK, 158 VCC@7 (power), 159 PT28A, 160 PT27B, 161 PT27A, 162 PT26A, 163 GNDIO1@1 (power), 164 PT25B, 165 PT25A, 166 PT24A, 167 VCCIO1@1 (power), 168 PT23B, 169 PT23A, 170 PT22B, 171 PT22A, 172 GNDIO1@2 (power), 173 PT21B, 174 PT20A, 175 PT19B, 176 PT19A, 177 VCCIO1@2 (power), 178 PT18B, 179 PT18A, 180 PT17B, 181 GND@7 (power), 182 VCC@8 (power), 183 PT16B, 184 GNDIO0@1 (power), 185 PT16A, 186 PT15B, 187 PT15A, 188 PT14B, 189 VCCIO0@1 (power), 190 PT14A, 191 PT13B, 192 PT12A, 193 PT11B, 194 GNDIO0@2 (power), 195 PT11A, 196 PT10B, 197 PT10A, 198 PT9B, 199 VCCIO0@2 (power), 200 PT9A, 201 PT8B, 202 PT8A, 203 PT7B, 204 PT7A, 205 PT6B, 206 PT5B, 207 GND@8 (power), 208 CFG0

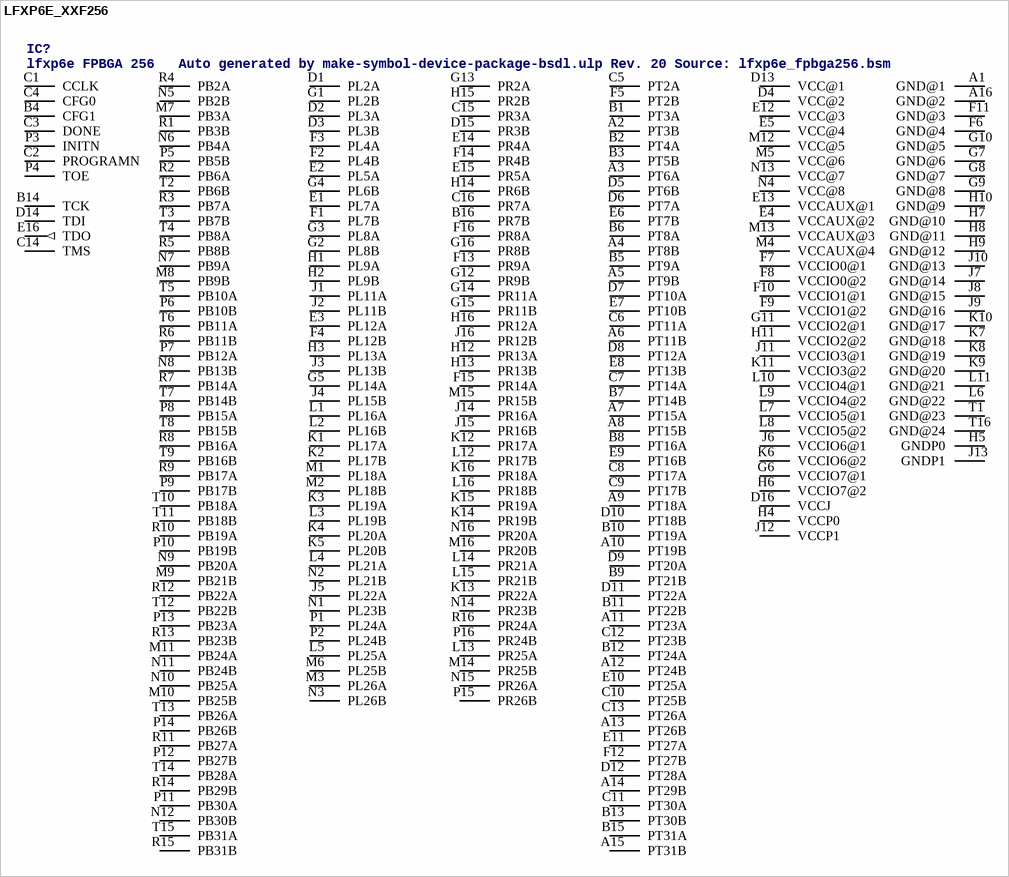
[diagram p6: symbol LFXP6E_XXF256]

## LFXP6E_XXF256
designator IC?, comment lfxp6e FPBGA 256   Auto generated by make-symbol-device-package-bsdl.ulp Rev. 20 Source: lfxp6e_fpbga256.bsm
OC_FARNELL: unknown; OC_NEWARK: unknown
footprint FPBGA_256
pins: A1 GND@1 (power), A2 PT3B, A3 PT6A, A4 PT8B, A5 PT9B, A6 PT11B, A7 PT15A, A8 PT15B, A9 PT18A, A10 PT19B, A11 PT23A, A12 PT24B, A13 PT26B, A14 PT29B, A15 PT31B, A16 GND@2 (power), B1 PT3A, B2 PT4A, B3 PT5B, B4 CFG1, B5 PT9A, B6 PT8A, B7 PT14B, B8 PT16A, B9 PT21B, B10 PT19A, B11 PT22B, B12 PT24A, B13 PT30B, B14 TCK, B15 PT31A, B16 PR7B, C1 CCLK, C2 PROGRAMN, C3 DONE, C4 CFG0, C5 PT2A, C6 PT11A, C7 PT14A, C8 PT17A, C9 PT17B, C10 PT25B, C11 PT30A, C12 PT23B, C13 PT26A, C14 TMS, C15 PR3A, C16 PR7A, D1 PL2A, D2 PL3A, D3 PL3B, D4 VCC@2 (power), D5 PT6B, D6 PT7A, D7 PT10A, D8 PT12A, D9 PT20A, D10 PT18B, D11 PT22A, D12 PT28A, D13 VCC@1 (power), D14 TDI, D15 PR3B, D16 VCCJ (power), E1 PL7A, E2 PL5A, E3 PL12A, E4 VCCAUX@2 (power), E5 VCC@4 (power), E6 PT7B, E7 PT10B, E8 PT13B, E9 PT16B, E10 PT25A, E11 PT27A, E12 VCC@3 (power), E13 VCCAUX@1 (power), E14 PR4A, E15 PR5A, E16 TDO (out), F1 PL7B, F2 PL4B, F3 PL4A, F4 PL12B, F5 PT2B, F6 GND@4 (power), F7 VCCIO0@1 (power), F8 VCCIO0@2 (power), F9 VCCIO1@2 (power), F10 VCCIO1@1 (power), F11 GND@3 (power), F12 PT27B, F13 PR9A, F14 PR4B, F15 PR14A, F16 PR8A, G1 PL2B, G2 PL8B, G3 PL8A, G4 PL6B, G5 PL14A, G6 VCCIO7@1 (power), G7 GND@6 (power), G8 GND@7 (power), G9 GND@8 (power), G10 GND@5 (power), G11 VCCIO2@1 (power), G12 PR9B, G13 PR2A, G14 PR11A, G15 PR11B, G16 PR8B, H1 PL9A, H2 PL9B, H3 PL13A, H4 VCCP0 (power), H5 GNDP0 (power), H6 VCCIO7@2 (power), H7 GND@10 (power), H8 GND@11 (power), H9 GND@12 (power), H10 GND@9 (power), H11 VCCIO2@2 (power), H12 PR13A, H13 PR13B, H14 PR6B, H15 PR2B, H16 PR12A, J1 PL11A, J2 PL11B, J3 PL13B, J4 PL15B, J5 PL22A, J6 VCCIO6@1 (power), J7 GND@14 (power), J8 GND@15 (power), J9 GND@16 (power), J10 GND@13 (power), J11 VCCIO3@1 (power), J12 VCCP1 (power), J13 GNDP1 (power), J14 PR16A, J15 PR16B, J16 PR12B, K1 PL17A, K2 PL17B, K3 PL19A, K4 PL20A, K5 PL20B, K6 VCCIO6@2 (power), K7 GND@18 (power), K8 GND@19 (power), K9 GND@20 (power), K10 GND@17 (power), K11 VCCIO3@2 (power), K12 PR17A, K13 PR22A, K14 PR19B, K15 PR19A, K16 PR18A, L1 PL16A, L2 PL16B, L3 PL19B, L4 PL21A, L5 PL25A, L6 GND@22 (power), L7 VCCIO5@1 (power), L8 VCCIO5@2 (power), L9 VCCIO4@2 (power), L10 VCCIO4@1 (power), L11 GND@21 (power), L12 PR17B, L13 PR25A, L14 PR21A, L15 PR21B, L16 PR18B, M1 PL18A, M2 PL18B, M3 PL26A, M4 VCCAUX@4 (power), M5 VCC@6 (power), M6 PL25B, M7 PB3A, M8 PB9B, M9 PB21B, M10 PB25B, M11 PB24A, M12 VCC@5 (power), M13 VCCAUX@3 (power), M14 PR25B, M15 PR15B, M16 PR20B, N1 PL23B, N2 PL21B, N3 PL26B, N4 VCC@8 (power), N5 PB2B, N6 PB4A, N7 PB9A, N8 PB13B, N9 PB20A, N10 PB25A, N11 PB24B, N12 PB30B, N13 VCC@7 (power), N14 PR23B, N15 PR26A, N16 PR20A, P1 PL24A, P2 PL24B, P3 INITN, P4 TOE, P5 PB5B, P6 PB10B, P7 PB12A, P8 PB15A, P9 PB17B, P10 PB19B, P11 PB30A, P12 PB27B, P13 PB23A, P14 PB26B, P15 PR26B, P16 PR24B, R1 PB3B, R2 PB6A, R3 PB7A, R4 PB2A, R5 PB8B, R6 PB11B, R7 PB14A, R8 PB16A, R9 PB17A, R10 PB19A, R11 PB27A, R12 PB22A, R13 PB23B, R14 PB29B, R15 PB31B, R16 PR24A, T1 GND@23 (power), T2 PB6B, T3 PB7B, T4 PB8A, T5 PB10A, T6 PB11A, T7 PB14B, T8 PB15B, T9 PB16B, T10 PB18A, T11 PB18B, T12 PB22B, T13 PB26A, T14 PB28A, T15 PB31A, T16 GND@24 (power)

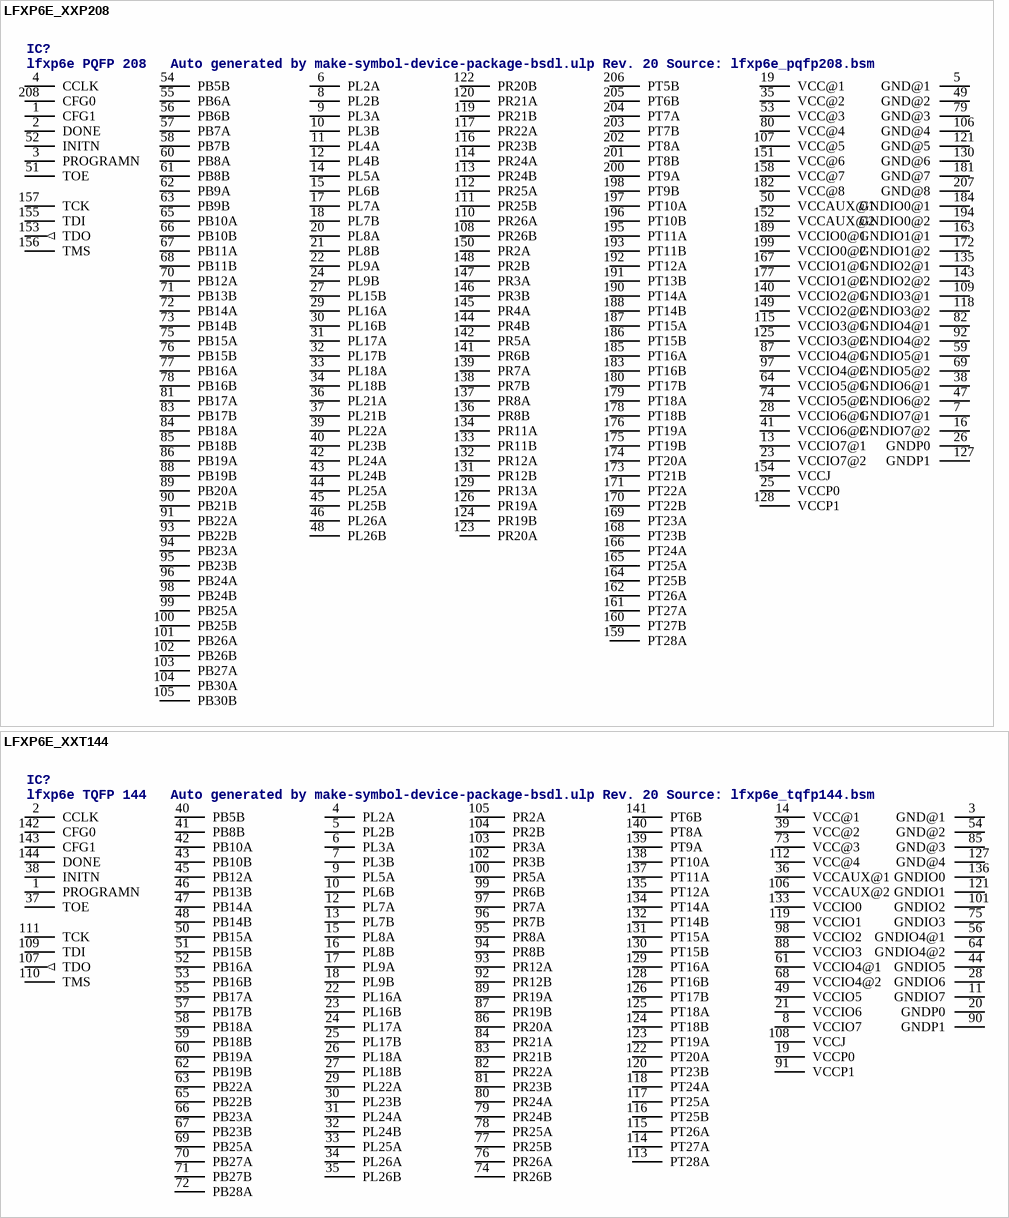
[diagram p7: symbols LFXP6E_XXP208 to LFXP6E_XXT144]

## LFXP6E_XXP208
designator IC?, comment lfxp6e PQFP 208   Auto generated by make-symbol-device-package-bsdl.ulp Rev. 20 Source: lfxp6e_pqfp208.bsm
OC_FARNELL: unknown; OC_NEWARK: unknown
footprint PQFP_208
pins: 1 CFG1, 2 DONE, 3 PROGRAMN, 4 CCLK, 5 GND@1 (power), 6 PL2A, 7 GNDIO7@1 (power), 8 PL2B, 9 PL3A, 10 PL3B, 11 PL4A, 12 PL4B, 13 VCCIO7@1 (power), 14 PL5A, 15 PL6B, 16 GNDIO7@2 (power), 17 PL7A, 18 PL7B, 19 VCC@1 (power), 20 PL8A, 21 PL8B, 22 PL9A, 23 VCCIO7@2 (power), 24 PL9B, 25 VCCP0 (power), 26 GNDP0 (power), 27 PL15B, 28 VCCIO6@1 (power), 29 PL16A, 30 PL16B, 31 PL17A, 32 PL17B, 33 PL18A, 34 PL18B, 35 VCC@2 (power), 36 PL21A, 37 PL21B, 38 GNDIO6@1 (power), 39 PL22A, 40 PL23B, 41 VCCIO6@2 (power), 42 PL24A, 43 PL24B, 44 PL25A, 45 PL25B, 46 PL26A, 47 GNDIO6@2 (power), 48 PL26B, 49 GND@2 (power), 50 VCCAUX@1 (power), 51 TOE, 52 INITN, 53 VCC@3 (power), 54 PB5B, 55 PB6A, 56 PB6B, 57 PB7A, 58 PB7B, 59 GNDIO5@1 (power), 60 PB8A, 61 PB8B, 62 PB9A, 63 PB9B, 64 VCCIO5@1 (power), 65 PB10A, 66 PB10B, 67 PB11A, 68 PB11B, 69 GNDIO5@2 (power), 70 PB12A, 71 PB13B, 72 PB14A, 73 PB14B, 74 VCCIO5@2 (power), 75 PB15A, 76 PB15B, 77 PB16A, 78 PB16B, 79 GND@3 (power), 80 VCC@4 (power), 81 PB17A, 82 GNDIO4@1 (power), 83 PB17B, 84 PB18A, 85 PB18B, 86 PB19A, 87 VCCIO4@1 (power), 88 PB19B, 89 PB20A, 90 PB21B, 91 PB22A, 92 GNDIO4@2 (power), 93 PB22B, 94 PB23A, 95 PB23B, 96 PB24A, 97 VCCIO4@2 (power), 98 PB24B, 99 PB25A, 100 PB25B, 101 PB26A, 102 PB26B, 103 PB27A, 104 PB30A, 105 PB30B, 106 GND@4 (power), 107 VCC@5 (power), 108 PR26B, 109 GNDIO3@1 (power), 110 PR26A, 111 PR25B, 112 PR25A, 113 PR24B, 114 PR24A, 115 VCCIO3@1 (power), 116 PR23B, 117 PR22A, 118 GNDIO3@2 (power), 119 PR21B, 120 PR21A, 121 GND@5 (power), 122 PR20B, 123 PR20A, 124 PR19B, 125 VCCIO3@2 (power), 126 PR19A, 127 GNDP1 (power), 128 VCCP1 (power), 129 PR13A, 130 GND@6 (power), 131 PR12B, 132 PR12A, 133 PR11B, 134 PR11A, 135 GNDIO2@1 (power), 136 PR8B, 137 PR8A, 138 PR7B, 139 PR7A, 140 VCCIO2@1 (power), 141 PR6B, 142 PR5A, 143 GNDIO2@2 (power), 144 PR4B, 145 PR4A, 146 PR3B, 147 PR3A, 148 PR2B, 149 VCCIO2@2 (power), 150 PR2A, 151 VCC@6 (power), 152 VCCAUX@2 (power), 153 TDO (out), 154 VCCJ (power), 155 TDI, 156 TMS, 157 TCK, 158 VCC@7 (power), 159 PT28A, 160 PT27B, 161 PT27A, 162 PT26A, 163 GNDIO1@1 (power), 164 PT25B, 165 PT25A, 166 PT24A, 167 VCCIO1@1 (power), 168 PT23B, 169 PT23A, 170 PT22B, 171 PT22A, 172 GNDIO1@2 (power), 173 PT21B, 174 PT20A, 175 PT19B, 176 PT19A, 177 VCCIO1@2 (power), 178 PT18B, 179 PT18A, 180 PT17B, 181 GND@7 (power), 182 VCC@8 (power), 183 PT16B, 184 GNDIO0@1 (power), 185 PT16A, 186 PT15B, 187 PT15A, 188 PT14B, 189 VCCIO0@1 (power), 190 PT14A, 191 PT13B, 192 PT12A, 193 PT11B, 194 GNDIO0@2 (power), 195 PT11A, 196 PT10B, 197 PT10A, 198 PT9B, 199 VCCIO0@2 (power), 200 PT9A, 201 PT8B, 202 PT8A, 203 PT7B, 204 PT7A, 205 PT6B, 206 PT5B, 207 GND@8 (power), 208 CFG0

## LFXP6E_XXT144
designator IC?, comment lfxp6e TQFP 144   Auto generated by make-symbol-device-package-bsdl.ulp Rev. 20 Source: lfxp6e_tqfp144.bsm
OC_FARNELL: unknown; OC_NEWARK: unknown
footprint TQFP144
pins: 1 PROGRAMN, 2 CCLK, 3 GND@1 (power), 4 PL2A, 5 PL2B, 6 PL3A, 7 PL3B, 8 VCCIO7 (power), 9 PL5A, 10 PL6B, 11 GNDIO7 (power), 12 PL7A, 13 PL7B, 14 VCC@1 (power), 15 PL8A, 16 PL8B, 17 PL9A, 18 PL9B, 19 VCCP0 (power), 20 GNDP0 (power), 21 VCCIO6 (power), 22 PL16A, 23 PL16B, 24 PL17A, 25 PL17B, 26 PL18A, 27 PL18B, 28 GNDIO6 (power), 29 PL22A, 30 PL23B, 31 PL24A, 32 PL24B, 33 PL25A, 34 PL26A, 35 PL26B, 36 VCCAUX@1 (power), 37 TOE, 38 INITN, 39 VCC@2 (power), 40 PB5B, 41 PB8B, 42 PB10A, 43 PB10B, 44 GNDIO5 (power), 45 PB12A, 46 PB13B, 47 PB14A, 48 PB14B, 49 VCCIO5 (power), 50 PB15A, 51 PB15B, 52 PB16A, 53 PB16B, 54 GND@2 (power), 55 PB17A, 56 GNDIO4@1 (power), 57 PB17B, 58 PB18A, 59 PB18B, 60 PB19A, 61 VCCIO4@1 (power), 62 PB19B, 63 PB22A, 64 GNDIO4@2 (power), 65 PB22B, 66 PB23A, 67 PB23B, 68 VCCIO4@2 (power), 69 PB25A, 70 PB27A, 71 PB27B, 72 PB28A, 73 VCC@3 (power), 74 PR26B, 75 GNDIO3 (power), 76 PR26A, 77 PR25B, 78 PR25A, 79 PR24B, 80 PR24A, 81 PR23B, 82 PR22A, 83 PR21B, 84 PR21A, 85 GND@3 (power), 86 PR20A, 87 PR19B, 88 VCCIO3 (power), 89 PR19A, 90 GNDP1 (power), 91 VCCP1 (power), 92 PR12B, 93 PR12A, 94 PR8B, 95 PR8A, 96 PR7B, 97 PR7A, 98 VCCIO2 (power), 99 PR6B, 100 PR5A, 101 GNDIO2 (power), 102 PR3B, 103 PR3A, 104 PR2B, 105 PR2A, 106 VCCAUX@2 (power), 107 TDO (out), 108 VCCJ (power), 109 TDI, 110 TMS, 111 TCK, 112 VCC@4 (power), 113 PT28A, 114 PT27A, 115 PT26A, 116 PT25B, 117 PT25A, 118 PT24A, 119 VCCIO1 (power), 120 PT23B, 121 GNDIO1 (power), 122 PT20A, 123 PT19A, 124 PT18B, 125 PT18A, 126 PT17B, 127 GND@4 (power), 128 PT16B, 129 PT16A, 130 PT15B, 131 PT15A, 132 PT14B, 133 VCCIO0 (power), 134 PT14A, 135 PT12A, 136 GNDIO0 (power), 137 PT11A, 138 PT10A, 139 PT9A, 140 PT8A, 141 PT6B, 142 CFG0, 143 CFG1, 144 DONE

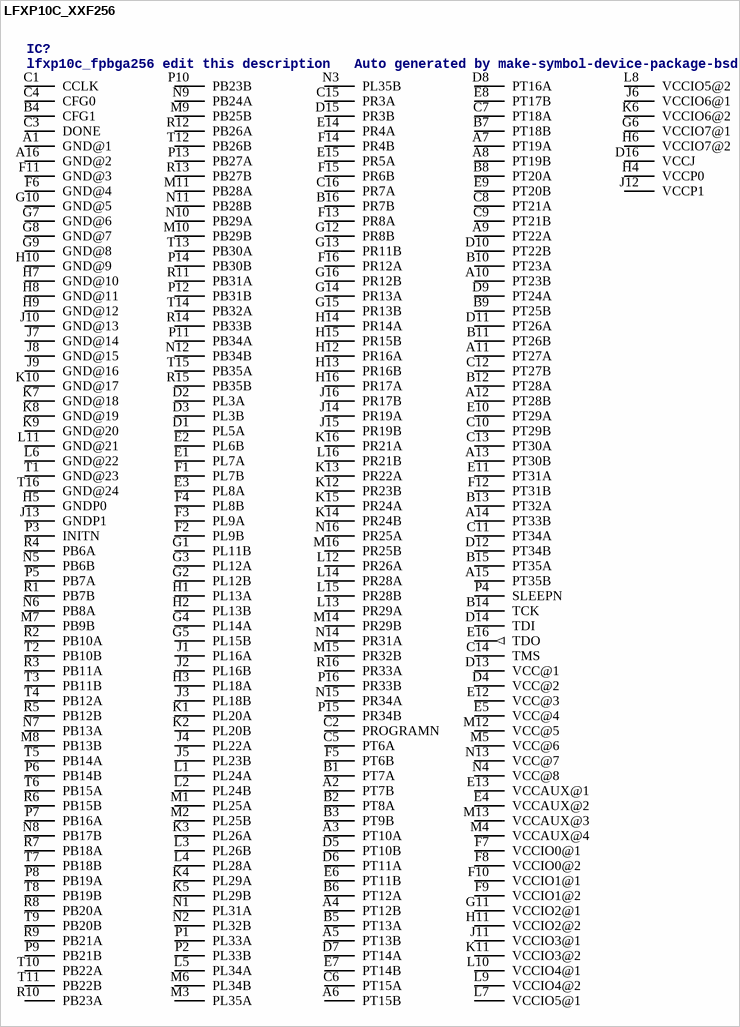
[diagram p8: symbol LFXP10C_XXF256]

## LFXP10C_XXF256
designator IC?, comment lfxp10c_fpbga256 edit this description   Auto generated by make-symbol-device-package-bsdl.ulp Rev. 20 Source: lfxp10c_fpbga256.bsm
OC_FARNELL: unknown; OC_NEWARK: unknown
footprint FPBGA_256
pins: A1 GND@1 (power), A2 PT7B, A3 PT10A, A4 PT12B, A5 PT13B, A6 PT15B, A7 PT19A, A8 PT19B, A9 PT22A, A10 PT23B, A11 PT27A, A12 PT28B, A13 PT30B, A14 PT33B, A15 PT35B, A16 GND@2 (power), B1 PT7A, B2 PT8A, B3 PT9B, B4 CFG1, B5 PT13A, B6 PT12A, B7 PT18B, B8 PT20A, B9 PT25B, B10 PT23A, B11 PT26B, B12 PT28A, B13 PT32A, B14 TCK, B15 PT35A, B16 PR7B, C1 CCLK, C2 PROGRAMN, C3 DONE, C4 CFG0, C5 PT6A, C6 PT15A, C7 PT18A, C8 PT21A, C9 PT21B, C10 PT29B, C11 PT34A, C12 PT27B, C13 PT30A, C14 TMS, C15 PR3A, C16 PR7A, D1 PL5A, D2 PL3A, D3 PL3B, D4 VCC@2 (power), D5 PT10B, D6 PT11A, D7 PT14A, D8 PT16A, D9 PT24A, D10 PT22B, D11 PT26A, D12 PT34B, D13 VCC@1 (power), D14 TDI, D15 PR3B, D16 VCCJ (power), E1 PL7A, E2 PL6B, E3 PL8A, E4 VCCAUX@2 (power), E5 VCC@4 (power), E6 PT11B, E7 PT14B, E8 PT17B, E9 PT20B, E10 PT29A, E11 PT31A, E12 VCC@3 (power), E13 VCCAUX@1 (power), E14 PR4A, E15 PR5A, E16 TDO (out), F1 PL7B, F2 PL9B, F3 PL9A, F4 PL8B, F5 PT6B, F6 GND@4 (power), F7 VCCIO0@1 (power), F8 VCCIO0@2 (power), F9 VCCIO1@2 (power), F10 VCCIO1@1 (power), F11 GND@3 (power), F12 PT31B, F13 PR8A, F14 PR4B, F15 PR6B, F16 PR12A, G1 PL11B, G2 PL12B, G3 PL12A, G4 PL14A, G5 PL15B, G6 VCCIO7@1 (power), G7 GND@6 (power), G8 GND@7 (power), G9 GND@8 (power), G10 GND@5 (power), G11 VCCIO2@1 (power), G12 PR8B, G13 PR11B, G14 PR13A, G15 PR13B, G16 PR12B, H1 PL13A, H2 PL13B, H3 PL18A, H4 VCCP0 (power), H5 GNDP0 (power), H6 VCCIO7@2 (power), H7 GND@10 (power), H8 GND@11 (power), H9 GND@12 (power), H10 GND@9 (power), H11 VCCIO2@2 (power), H12 PR16A, H13 PR16B, H14 PR14A, H15 PR15B, H16 PR17A, J1 PL16A, J2 PL16B, J3 PL18B, J4 PL22A, J5 PL23B, J6 VCCIO6@1 (power), J7 GND@14 (power), J8 GND@15 (power), J9 GND@16 (power), J10 GND@13 (power), J11 VCCIO3@1 (power), J12 VCCP1 (power), J13 GNDP1 (power), J14 PR19A, J15 PR19B, J16 PR17B, K1 PL20A, K2 PL20B, K3 PL26A, K4 PL29A, K5 PL29B, K6 VCCIO6@2 (power), K7 GND@18 (power), K8 GND@19 (power), K9 GND@20 (power), K10 GND@17 (power), K11 VCCIO3@2 (power), K12 PR23B, K13 PR22A, K14 PR24B, K15 PR24A, K16 PR21A, L1 PL24A, L2 PL24B, L3 PL26B, L4 PL28A, L5 PL34A, L6 GND@22 (power), L7 VCCIO5@1 (power), L8 VCCIO5@2 (power), L9 VCCIO4@2 (power), L10 VCCIO4@1 (power), L11 GND@21 (power), L12 PR26A, L13 PR29A, L14 PR28A, L15 PR28B, L16 PR21B, M1 PL25A, M2 PL25B, M3 PL35A, M4 VCCAUX@4 (power), M5 VCC@6 (power), M6 PL34B, M7 PB9B, M8 PB13B, M9 PB25B, M10 PB29B, M11 PB28A, M12 VCC@5 (power), M13 VCCAUX@3 (power), M14 PR29B, M15 PR32B, M16 PR25B, N1 PL31A, N2 PL32B, N3 PL35B, N4 VCC@8 (power), N5 PB6B, N6 PB8A, N7 PB13A, N8 PB17B, N9 PB24A, N10 PB29A, N11 PB28B, N12 PB34B, N13 VCC@7 (power), N14 PR31A, N15 PR34A, N16 PR25A, P1 PL33A, P2 PL33B, P3 INITN, P4 SLEEPN, P5 PB7A, P6 PB14B, P7 PB16A, P8 PB19A, P9 PB21B, P10 PB23B, P11 PB34A, P12 PB31B, P13 PB27A, P14 PB30B, P15 PR34B, P16 PR33B, R1 PB7B, R2 PB10A, R3 PB11A, R4 PB6A, R5 PB12B, R6 PB15B, R7 PB18A, R8 PB20A, R9 PB21A, R10 PB23A, R11 PB31A, R12 PB26A, R13 PB27B, R14 PB33B, R15 PB35B, R16 PR33A, T1 GND@23 (power), T2 PB10B, T3 PB11B, T4 PB12A, T5 PB14A, T6 PB15A, T7 PB18B, T8 PB19B, T9 PB20B, T10 PB22A, T11 PB22B, T12 PB26B, T13 PB30A, T14 PB32A, T15 PB35A, T16 GND@24 (power)

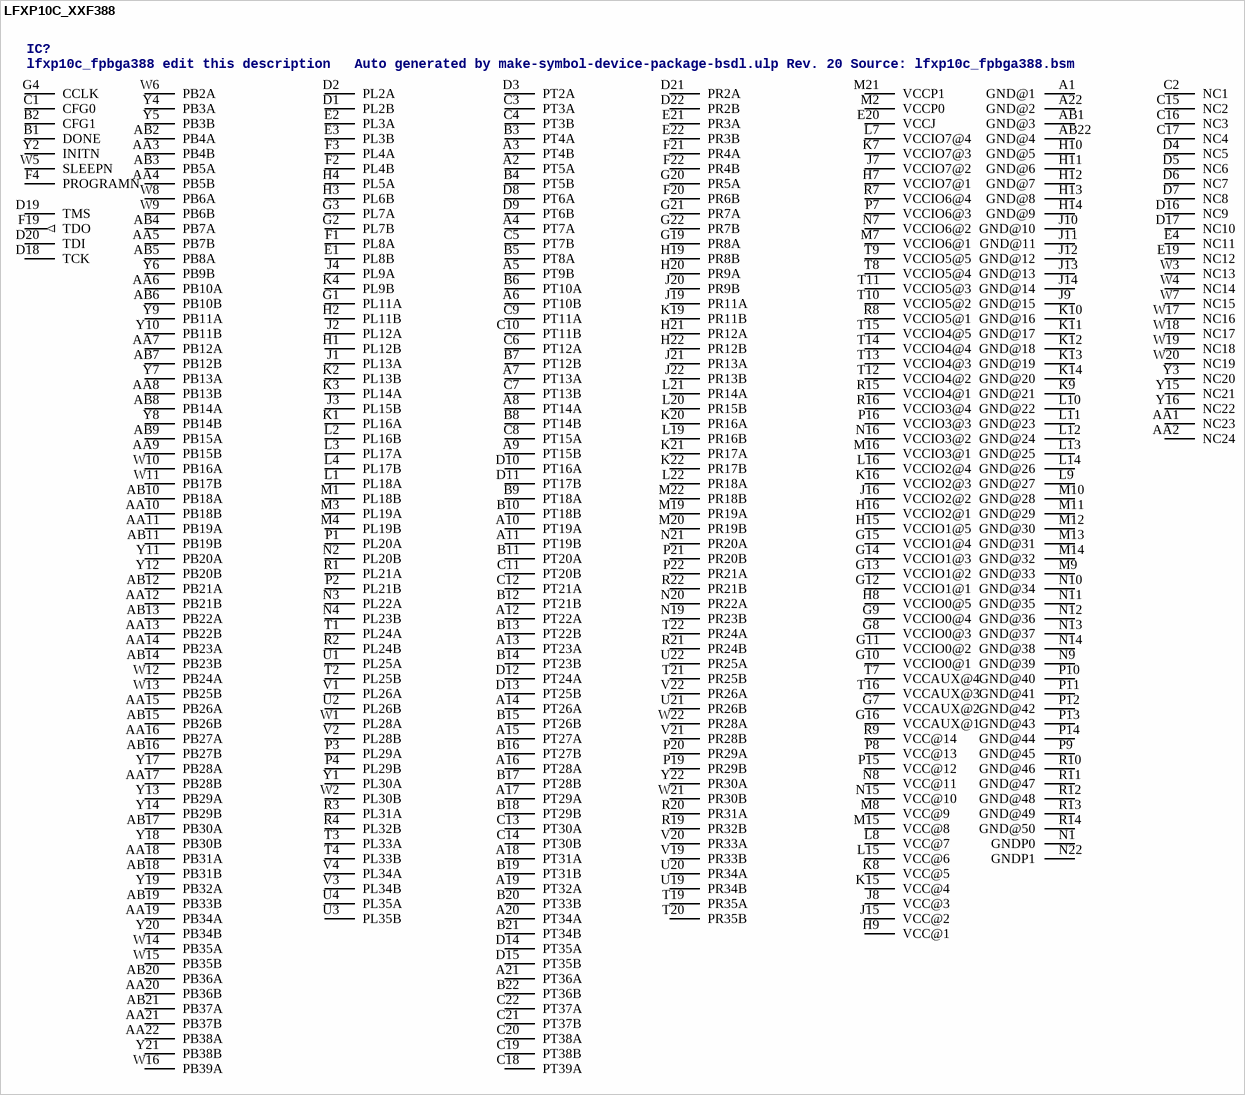
[diagram p9: symbol LFXP10C_XXF388]

## LFXP10C_XXF388
designator IC?, comment lfxp10c_fpbga388 edit this description   Auto generated by make-symbol-device-package-bsdl.ulp Rev. 20 Source: lfxp10c_fpbga388.bsm
OC_FARNELL: unknown; OC_NEWARK: unknown
footprint FPBGA388
pins: A1 GND@1 (power), A2 PT5A, A3 PT4B, A4 PT7A, A5 PT9B, A6 PT10B, A7 PT13A, A8 PT14A, A9 PT15B, A10 PT19A, A11 PT19B, A12 PT22A, A13 PT23A, A14 PT26A, A15 PT27A, A16 PT28A, A17 PT29A, A18 PT31A, A19 PT32A, A20 PT34A, A21 PT36A, A22 GND@2 (power), AA1 NC23, AA2 NC24, AA3 PB4B, AA4 PB5B, AA5 PB7B, AA6 PB10A, AA7 PB12A, AA8 PB13B, AA9 PB15B, AA10 PB18B, AA11 PB19A, AA12 PB21B, AA13 PB22B, AA14 PB23A, AA15 PB26A, AA16 PB27A, AA17 PB28B, AA18 PB31A, AA19 PB34A, AA20 PB36B, AA21 PB37B, AA22 PB38A, AB1 GND@3 (power), AB2 PB4A, AB3 PB5A, AB4 PB7A, AB5 PB8A, AB6 PB10B, AB7 PB12B, AB8 PB14A, AB9 PB15A, AB10 PB18A, AB11 PB19B, AB12 PB21A, AB13 PB22A, AB14 PB23B, AB15 PB26B, AB16 PB27B, AB17 PB30A, AB18 PB31B, AB19 PB33B, AB20 PB36A, AB21 PB37A, AB22 GND@4 (power), B1 DONE, B2 CFG1, B3 PT4A, B4 PT5B, B5 PT8A, B6 PT10A, B7 PT12B, B8 PT14B, B9 PT18A, B10 PT18B, B11 PT20A, B12 PT21B, B13 PT22B, B14 PT23B, B15 PT26B, B16 PT27B, B17 PT28B, B18 PT29B, B19 PT31B, B20 PT33B, B21 PT34B, B22 PT36B, C1 CFG0, C2 NC1, C3 PT3A, C4 PT3B, C5 PT7B, C6 PT12A, C7 PT13B, C8 PT15A, C9 PT11A, C10 PT11B, C11 PT20B, C12 PT21A, C13 PT30A, C14 PT30B, C15 NC2, C16 NC3, C17 NC4, C18 PT39A, C19 PT38B, C20 PT38A, C21 PT37B, C22 PT37A, D1 PL2B, D2 PL2A, D3 PT2A, D4 NC5, D5 NC6, D6 NC7, D7 NC8, D8 PT6A, D9 PT6B, D10 PT16A, D11 PT17B, D12 PT24A, D13 PT25B, D14 PT35A, D15 PT35B, D16 NC9, D17 NC10, D18 TCK, D19 TMS, D20 TDI, D21 PR2A, D22 PR2B, E1 PL8B, E2 PL3A, E3 PL3B, E4 NC11, E19 NC12, E20 VCCJ (power), E21 PR3A, E22 PR3B, F1 PL8A, F2 PL4B, F3 PL4A, F4 PROGRAMN, F19 TDO (out), F20 PR6B, F21 PR4A, F22 PR4B, G1 PL11A, G2 PL7B, G3 PL7A, G4 CCLK, G7 VCCAUX@2 (power), G8 VCCIO0@3 (power), G9 VCCIO0@4 (power), G10 VCCIO0@1 (power), G11 VCCIO0@2 (power), G12 VCCIO1@1 (power), G13 VCCIO1@2 (power), G14 VCCIO1@3 (power), G15 VCCIO1@4 (power), G16 VCCAUX@1 (power), G19 PR8A, G20 PR5A, G21 PR7A, G22 PR7B, H1 PL12B, H2 PL11B, H3 PL6B, H4 PL5A, H7 VCCIO7@1 (power), H8 VCCIO0@5 (power), H9 VCC@1 (power), H10 GND@5 (power), H11 GND@6 (power), H12 GND@7 (power), H13 GND@8 (power), H14 GND@9 (power), H15 VCCIO1@5 (power), H16 VCCIO2@1 (power), H19 PR8B, H20 PR9A, H21 PR12A, H22 PR12B, J1 PL13A, J2 PL12A, J3 PL15B, J4 PL9A, J7 VCCIO7@2 (power), J8 VCC@3 (power), J9 GND@15 (power), J10 GND@10 (power), J11 GND@11 (power), J12 GND@12 (power), J13 GND@13 (power), J14 GND@14 (power), J15 VCC@2 (power), J16 VCCIO2@2 (power), J19 PR11A, J20 PR9B, J21 PR13A, J22 PR13B, K1 PL16A, K2 PL13B, K3 PL14A, K4 PL9B, K7 VCCIO7@3 (power), K8 VCC@5 (power), K9 GND@21 (power), K10 GND@16 (power), K11 GND@17 (power), K12 GND@18 (power), K13 GND@19 (power), K14 GND@20 (power), K15 VCC@4 (power), K16 VCCIO2@3 (power), K19 PR11B, K20 PR16A, K21 PR17A, K22 PR17B, L1 PL18A, L2 PL16B, L3 PL17A, L4 PL17B, L7 VCCIO7@4 (power), L8 VCC@7 (power), L9 GND@27 (power), L10 GND@22 (power), L11 GND@23 (power), L12 GND@24 (power), L13 GND@25 (power), L14 GND@26 (power), L15 VCC@6 (power), L16 VCCIO2@4 (power), L19 PR16B, L20 PR15B, L21 PR14A, L22 PR18A, M1 PL18B, M2 VCCP0 (power), M3 PL19A, M4 PL19B, M7 VCCIO6@1 (power), M8 VCC@9 (power), M9 GND@33 (power), M10 GND@28 (power), M11 GND@29 (power), M12 GND@30 (power), M13 GND@31 (power), M14 GND@32 (power), M15 VCC@8 (power), M16 VCCIO3@1 (power), M19 PR19A, M20 PR19B, M21 VCCP1 (power), M22 PR18B, N1 GNDP0 (power), N2 PL20B, N3 PL22A, N4 PL23B, N7 VCCIO6@2 (power), N8 VCC@11 (power), N9 GND@39 (power), N10 GND@34 (power), N11 GND@35 (power), N12 GND@36 (power), N13 GND@37 (power), N14 GND@38 (power), N15 VCC@10 (power), N16 VCCIO3@2 (power), N19 PR23B, N20 PR22A, N21 PR20A, N22 GNDP1 (power), P1 PL20A, P2 PL21B, P3 PL29A, P4 PL29B, P7 VCCIO6@3 (power), P8 VCC@13 (power), P9 GND@45 (power), P10 GND@40 (power), P11 GND@41 (power), P12 GND@42 (power), P13 GND@43 (power), P14 GND@44 (power), P15 VCC@12 (power), P16 VCCIO3@3 (power), P19 PR29B, P20 PR29A, P21 PR20B, P22 PR21A, R1 PL21A, R2 PL24B, R3 PL31A, R4 PL32B, R7 VCCIO6@4 (power), R8 VCCIO5@1 (power), R9 VCC@14 (power), R10 GND@46 (power), R11 GND@47 (power), R12 GND@48 (power), R13 GND@49 (power), R14 GND@50 (power), R15 VCCIO4@1 (power), R16 VCCIO3@4 (power), R19 PR32B, R20 PR31A, R21 PR24B, R22 PR21B, T1 PL24A, T2 PL25B, T3 PL33A, T4 PL33B, T7 VCCAUX@4 (power), T8 VCCIO5@4 (power), T9 VCCIO5@5 (power), T10 VCCIO5@2 (power), T11 VCCIO5@3 (power), T12 VCCIO4@2 (power), T13 VCCIO4@3 (power), T14 VCCIO4@4 (power), T15 VCCIO4@5 (power), T16 VCCAUX@3 (power), T19 PR35A, T20 PR35B, T21 PR25B, T22 PR24A, U1 PL25A, U2 PL26B, U3 PL35B, U4 PL35A, U19 PR34B, U20 PR34A, U21 PR26B, U22 PR25A, V1 PL26A, V2 PL28B, V3 PL34B, V4 PL34A, V19 PR33B, V20 PR33A, V21 PR28B, V22 PR26A, W1 PL28A, W2 PL30B, W3 NC13, W4 NC14, W5 SLEEPN, W6 PB2A, W7 NC15, W8 PB6A, W9 PB6B, W10 PB16A, W11 PB17B, W12 PB24A, W13 PB25B, W14 PB35A, W15 PB35B, W16 PB39A, W17 NC16, W18 NC17, W19 NC18, W20 NC19, W21 PR30B, W22 PR28A, Y1 PL30A, Y2 INITN, Y3 NC20, Y4 PB3A, Y5 PB3B, Y6 PB9B, Y7 PB13A, Y8 PB14B, Y9 PB11A, Y10 PB11B, Y11 PB20A, Y12 PB20B, Y13 PB29A, Y14 PB29B, Y15 NC21, Y16 NC22, Y17 PB28A, Y18 PB30B, Y19 PB32A, Y20 PB34B, Y21 PB38B, Y22 PR30A

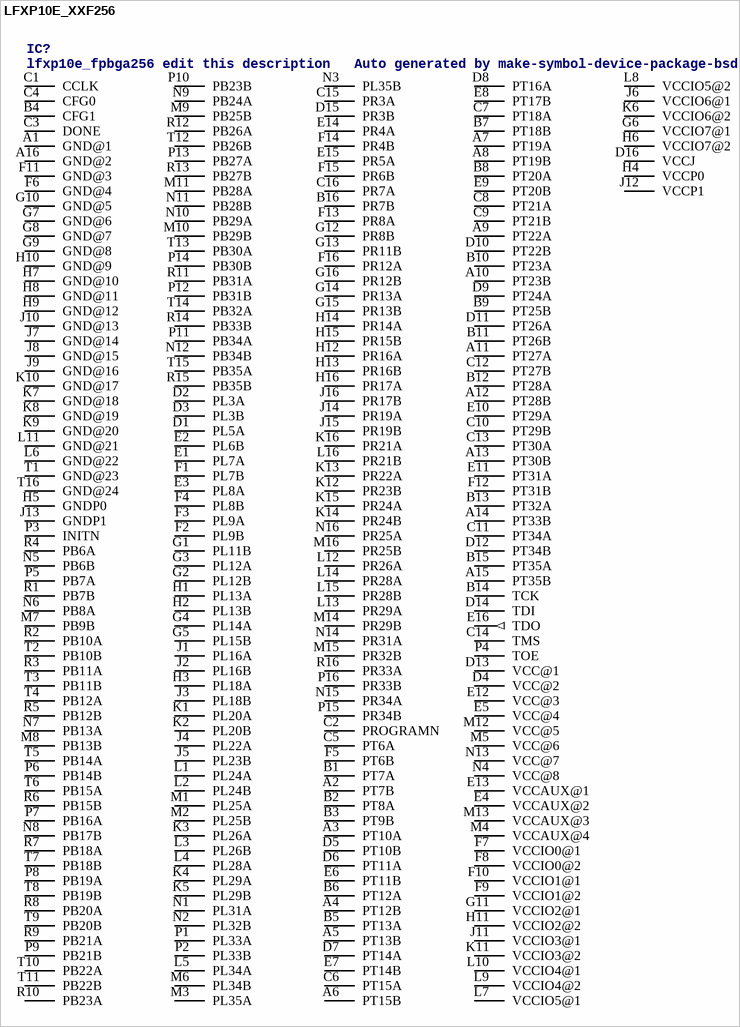
[diagram p10: symbol LFXP10E_XXF256]

## LFXP10E_XXF256
designator IC?, comment lfxp10e_fpbga256 edit this description   Auto generated by make-symbol-device-package-bsdl.ulp Rev. 20 Source: lfxp10e_fpbga256.bsm
OC_FARNELL: unknown; OC_NEWARK: unknown
footprint FPBGA_256
pins: A1 GND@1 (power), A2 PT7B, A3 PT10A, A4 PT12B, A5 PT13B, A6 PT15B, A7 PT19A, A8 PT19B, A9 PT22A, A10 PT23B, A11 PT27A, A12 PT28B, A13 PT30B, A14 PT33B, A15 PT35B, A16 GND@2 (power), B1 PT7A, B2 PT8A, B3 PT9B, B4 CFG1, B5 PT13A, B6 PT12A, B7 PT18B, B8 PT20A, B9 PT25B, B10 PT23A, B11 PT26B, B12 PT28A, B13 PT32A, B14 TCK, B15 PT35A, B16 PR7B, C1 CCLK, C2 PROGRAMN, C3 DONE, C4 CFG0, C5 PT6A, C6 PT15A, C7 PT18A, C8 PT21A, C9 PT21B, C10 PT29B, C11 PT34A, C12 PT27B, C13 PT30A, C14 TMS, C15 PR3A, C16 PR7A, D1 PL5A, D2 PL3A, D3 PL3B, D4 VCC@2 (power), D5 PT10B, D6 PT11A, D7 PT14A, D8 PT16A, D9 PT24A, D10 PT22B, D11 PT26A, D12 PT34B, D13 VCC@1 (power), D14 TDI, D15 PR3B, D16 VCCJ (power), E1 PL7A, E2 PL6B, E3 PL8A, E4 VCCAUX@2 (power), E5 VCC@4 (power), E6 PT11B, E7 PT14B, E8 PT17B, E9 PT20B, E10 PT29A, E11 PT31A, E12 VCC@3 (power), E13 VCCAUX@1 (power), E14 PR4A, E15 PR5A, E16 TDO (out), F1 PL7B, F2 PL9B, F3 PL9A, F4 PL8B, F5 PT6B, F6 GND@4 (power), F7 VCCIO0@1 (power), F8 VCCIO0@2 (power), F9 VCCIO1@2 (power), F10 VCCIO1@1 (power), F11 GND@3 (power), F12 PT31B, F13 PR8A, F14 PR4B, F15 PR6B, F16 PR12A, G1 PL11B, G2 PL12B, G3 PL12A, G4 PL14A, G5 PL15B, G6 VCCIO7@1 (power), G7 GND@6 (power), G8 GND@7 (power), G9 GND@8 (power), G10 GND@5 (power), G11 VCCIO2@1 (power), G12 PR8B, G13 PR11B, G14 PR13A, G15 PR13B, G16 PR12B, H1 PL13A, H2 PL13B, H3 PL18A, H4 VCCP0 (power), H5 GNDP0 (power), H6 VCCIO7@2 (power), H7 GND@10 (power), H8 GND@11 (power), H9 GND@12 (power), H10 GND@9 (power), H11 VCCIO2@2 (power), H12 PR16A, H13 PR16B, H14 PR14A, H15 PR15B, H16 PR17A, J1 PL16A, J2 PL16B, J3 PL18B, J4 PL22A, J5 PL23B, J6 VCCIO6@1 (power), J7 GND@14 (power), J8 GND@15 (power), J9 GND@16 (power), J10 GND@13 (power), J11 VCCIO3@1 (power), J12 VCCP1 (power), J13 GNDP1 (power), J14 PR19A, J15 PR19B, J16 PR17B, K1 PL20A, K2 PL20B, K3 PL26A, K4 PL29A, K5 PL29B, K6 VCCIO6@2 (power), K7 GND@18 (power), K8 GND@19 (power), K9 GND@20 (power), K10 GND@17 (power), K11 VCCIO3@2 (power), K12 PR23B, K13 PR22A, K14 PR24B, K15 PR24A, K16 PR21A, L1 PL24A, L2 PL24B, L3 PL26B, L4 PL28A, L5 PL34A, L6 GND@22 (power), L7 VCCIO5@1 (power), L8 VCCIO5@2 (power), L9 VCCIO4@2 (power), L10 VCCIO4@1 (power), L11 GND@21 (power), L12 PR26A, L13 PR29A, L14 PR28A, L15 PR28B, L16 PR21B, M1 PL25A, M2 PL25B, M3 PL35A, M4 VCCAUX@4 (power), M5 VCC@6 (power), M6 PL34B, M7 PB9B, M8 PB13B, M9 PB25B, M10 PB29B, M11 PB28A, M12 VCC@5 (power), M13 VCCAUX@3 (power), M14 PR29B, M15 PR32B, M16 PR25B, N1 PL31A, N2 PL32B, N3 PL35B, N4 VCC@8 (power), N5 PB6B, N6 PB8A, N7 PB13A, N8 PB17B, N9 PB24A, N10 PB29A, N11 PB28B, N12 PB34B, N13 VCC@7 (power), N14 PR31A, N15 PR34A, N16 PR25A, P1 PL33A, P2 PL33B, P3 INITN, P4 TOE, P5 PB7A, P6 PB14B, P7 PB16A, P8 PB19A, P9 PB21B, P10 PB23B, P11 PB34A, P12 PB31B, P13 PB27A, P14 PB30B, P15 PR34B, P16 PR33B, R1 PB7B, R2 PB10A, R3 PB11A, R4 PB6A, R5 PB12B, R6 PB15B, R7 PB18A, R8 PB20A, R9 PB21A, R10 PB23A, R11 PB31A, R12 PB26A, R13 PB27B, R14 PB33B, R15 PB35B, R16 PR33A, T1 GND@23 (power), T2 PB10B, T3 PB11B, T4 PB12A, T5 PB14A, T6 PB15A, T7 PB18B, T8 PB19B, T9 PB20B, T10 PB22A, T11 PB22B, T12 PB26B, T13 PB30A, T14 PB32A, T15 PB35A, T16 GND@24 (power)

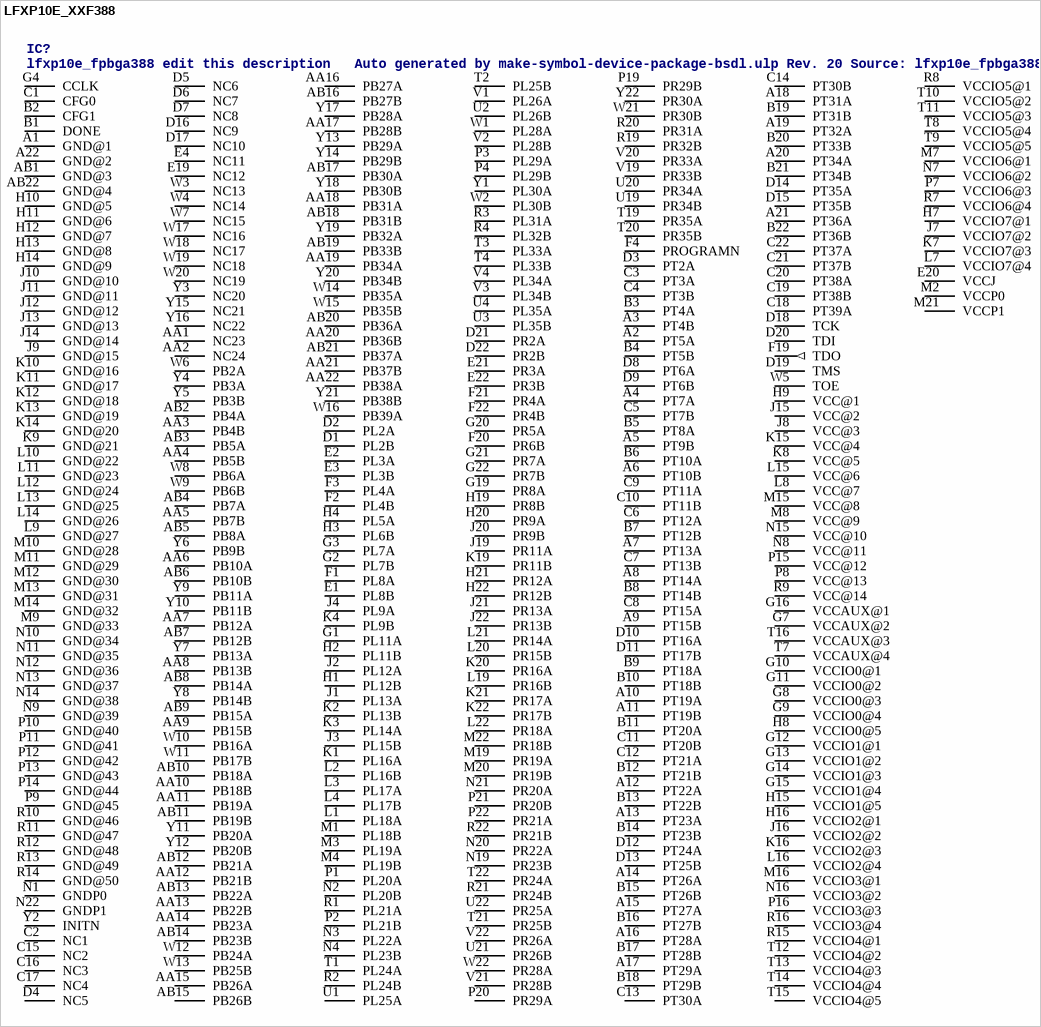
[diagram p11: symbol LFXP10E_XXF388]

## LFXP10E_XXF388
designator IC?, comment lfxp10e_fpbga388 edit this description   Auto generated by make-symbol-device-package-bsdl.ulp Rev. 20 Source: lfxp10e_fpbga388.bsm
OC_FARNELL: unknown; OC_NEWARK: unknown
footprint FPBGA388
pins: A1 GND@1 (power), A2 PT5A, A3 PT4B, A4 PT7A, A5 PT9B, A6 PT10B, A7 PT13A, A8 PT14A, A9 PT15B, A10 PT19A, A11 PT19B, A12 PT22A, A13 PT23A, A14 PT26A, A15 PT27A, A16 PT28A, A17 PT29A, A18 PT31A, A19 PT32A, A20 PT34A, A21 PT36A, A22 GND@2 (power), AA1 NC23, AA2 NC24, AA3 PB4B, AA4 PB5B, AA5 PB7B, AA6 PB10A, AA7 PB12A, AA8 PB13B, AA9 PB15B, AA10 PB18B, AA11 PB19A, AA12 PB21B, AA13 PB22B, AA14 PB23A, AA15 PB26A, AA16 PB27A, AA17 PB28B, AA18 PB31A, AA19 PB34A, AA20 PB36B, AA21 PB37B, AA22 PB38A, AB1 GND@3 (power), AB2 PB4A, AB3 PB5A, AB4 PB7A, AB5 PB8A, AB6 PB10B, AB7 PB12B, AB8 PB14A, AB9 PB15A, AB10 PB18A, AB11 PB19B, AB12 PB21A, AB13 PB22A, AB14 PB23B, AB15 PB26B, AB16 PB27B, AB17 PB30A, AB18 PB31B, AB19 PB33B, AB20 PB36A, AB21 PB37A, AB22 GND@4 (power), B1 DONE, B2 CFG1, B3 PT4A, B4 PT5B, B5 PT8A, B6 PT10A, B7 PT12B, B8 PT14B, B9 PT18A, B10 PT18B, B11 PT20A, B12 PT21B, B13 PT22B, B14 PT23B, B15 PT26B, B16 PT27B, B17 PT28B, B18 PT29B, B19 PT31B, B20 PT33B, B21 PT34B, B22 PT36B, C1 CFG0, C2 NC1, C3 PT3A, C4 PT3B, C5 PT7B, C6 PT12A, C7 PT13B, C8 PT15A, C9 PT11A, C10 PT11B, C11 PT20B, C12 PT21A, C13 PT30A, C14 PT30B, C15 NC2, C16 NC3, C17 NC4, C18 PT39A, C19 PT38B, C20 PT38A, C21 PT37B, C22 PT37A, D1 PL2B, D2 PL2A, D3 PT2A, D4 NC5, D5 NC6, D6 NC7, D7 NC8, D8 PT6A, D9 PT6B, D10 PT16A, D11 PT17B, D12 PT24A, D13 PT25B, D14 PT35A, D15 PT35B, D16 NC9, D17 NC10, D18 TCK, D19 TMS, D20 TDI, D21 PR2A, D22 PR2B, E1 PL8B, E2 PL3A, E3 PL3B, E4 NC11, E19 NC12, E20 VCCJ (power), E21 PR3A, E22 PR3B, F1 PL8A, F2 PL4B, F3 PL4A, F4 PROGRAMN, F19 TDO (out), F20 PR6B, F21 PR4A, F22 PR4B, G1 PL11A, G2 PL7B, G3 PL7A, G4 CCLK, G7 VCCAUX@2 (power), G8 VCCIO0@3 (power), G9 VCCIO0@4 (power), G10 VCCIO0@1 (power), G11 VCCIO0@2 (power), G12 VCCIO1@1 (power), G13 VCCIO1@2 (power), G14 VCCIO1@3 (power), G15 VCCIO1@4 (power), G16 VCCAUX@1 (power), G19 PR8A, G20 PR5A, G21 PR7A, G22 PR7B, H1 PL12B, H2 PL11B, H3 PL6B, H4 PL5A, H7 VCCIO7@1 (power), H8 VCCIO0@5 (power), H9 VCC@1 (power), H10 GND@5 (power), H11 GND@6 (power), H12 GND@7 (power), H13 GND@8 (power), H14 GND@9 (power), H15 VCCIO1@5 (power), H16 VCCIO2@1 (power), H19 PR8B, H20 PR9A, H21 PR12A, H22 PR12B, J1 PL13A, J2 PL12A, J3 PL15B, J4 PL9A, J7 VCCIO7@2 (power), J8 VCC@3 (power), J9 GND@15 (power), J10 GND@10 (power), J11 GND@11 (power), J12 GND@12 (power), J13 GND@13 (power), J14 GND@14 (power), J15 VCC@2 (power), J16 VCCIO2@2 (power), J19 PR11A, J20 PR9B, J21 PR13A, J22 PR13B, K1 PL16A, K2 PL13B, K3 PL14A, K4 PL9B, K7 VCCIO7@3 (power), K8 VCC@5 (power), K9 GND@21 (power), K10 GND@16 (power), K11 GND@17 (power), K12 GND@18 (power), K13 GND@19 (power), K14 GND@20 (power), K15 VCC@4 (power), K16 VCCIO2@3 (power), K19 PR11B, K20 PR16A, K21 PR17A, K22 PR17B, L1 PL18A, L2 PL16B, L3 PL17A, L4 PL17B, L7 VCCIO7@4 (power), L8 VCC@7 (power), L9 GND@27 (power), L10 GND@22 (power), L11 GND@23 (power), L12 GND@24 (power), L13 GND@25 (power), L14 GND@26 (power), L15 VCC@6 (power), L16 VCCIO2@4 (power), L19 PR16B, L20 PR15B, L21 PR14A, L22 PR18A, M1 PL18B, M2 VCCP0 (power), M3 PL19A, M4 PL19B, M7 VCCIO6@1 (power), M8 VCC@9 (power), M9 GND@33 (power), M10 GND@28 (power), M11 GND@29 (power), M12 GND@30 (power), M13 GND@31 (power), M14 GND@32 (power), M15 VCC@8 (power), M16 VCCIO3@1 (power), M19 PR19A, M20 PR19B, M21 VCCP1 (power), M22 PR18B, N1 GNDP0 (power), N2 PL20B, N3 PL22A, N4 PL23B, N7 VCCIO6@2 (power), N8 VCC@11 (power), N9 GND@39 (power), N10 GND@34 (power), N11 GND@35 (power), N12 GND@36 (power), N13 GND@37 (power), N14 GND@38 (power), N15 VCC@10 (power), N16 VCCIO3@2 (power), N19 PR23B, N20 PR22A, N21 PR20A, N22 GNDP1 (power), P1 PL20A, P2 PL21B, P3 PL29A, P4 PL29B, P7 VCCIO6@3 (power), P8 VCC@13 (power), P9 GND@45 (power), P10 GND@40 (power), P11 GND@41 (power), P12 GND@42 (power), P13 GND@43 (power), P14 GND@44 (power), P15 VCC@12 (power), P16 VCCIO3@3 (power), P19 PR29B, P20 PR29A, P21 PR20B, P22 PR21A, R1 PL21A, R2 PL24B, R3 PL31A, R4 PL32B, R7 VCCIO6@4 (power), R8 VCCIO5@1 (power), R9 VCC@14 (power), R10 GND@46 (power), R11 GND@47 (power), R12 GND@48 (power), R13 GND@49 (power), R14 GND@50 (power), R15 VCCIO4@1 (power), R16 VCCIO3@4 (power), R19 PR32B, R20 PR31A, R21 PR24B, R22 PR21B, T1 PL24A, T2 PL25B, T3 PL33A, T4 PL33B, T7 VCCAUX@4 (power), T8 VCCIO5@4 (power), T9 VCCIO5@5 (power), T10 VCCIO5@2 (power), T11 VCCIO5@3 (power), T12 VCCIO4@2 (power), T13 VCCIO4@3 (power), T14 VCCIO4@4 (power), T15 VCCIO4@5 (power), T16 VCCAUX@3 (power), T19 PR35A, T20 PR35B, T21 PR25B, T22 PR24A, U1 PL25A, U2 PL26B, U3 PL35B, U4 PL35A, U19 PR34B, U20 PR34A, U21 PR26B, U22 PR25A, V1 PL26A, V2 PL28B, V3 PL34B, V4 PL34A, V19 PR33B, V20 PR33A, V21 PR28B, V22 PR26A, W1 PL28A, W2 PL30B, W3 NC13, W4 NC14, W5 TOE, W6 PB2A, W7 NC15, W8 PB6A, W9 PB6B, W10 PB16A, W11 PB17B, W12 PB24A, W13 PB25B, W14 PB35A, W15 PB35B, W16 PB39A, W17 NC16, W18 NC17, W19 NC18, W20 NC19, W21 PR30B, W22 PR28A, Y1 PL30A, Y2 INITN, Y3 NC20, Y4 PB3A, Y5 PB3B, Y6 PB9B, Y7 PB13A, Y8 PB14B, Y9 PB11A, Y10 PB11B, Y11 PB20A, Y12 PB20B, Y13 PB29A, Y14 PB29B, Y15 NC21, Y16 NC22, Y17 PB28A, Y18 PB30B, Y19 PB32A, Y20 PB34B, Y21 PB38B, Y22 PR30A

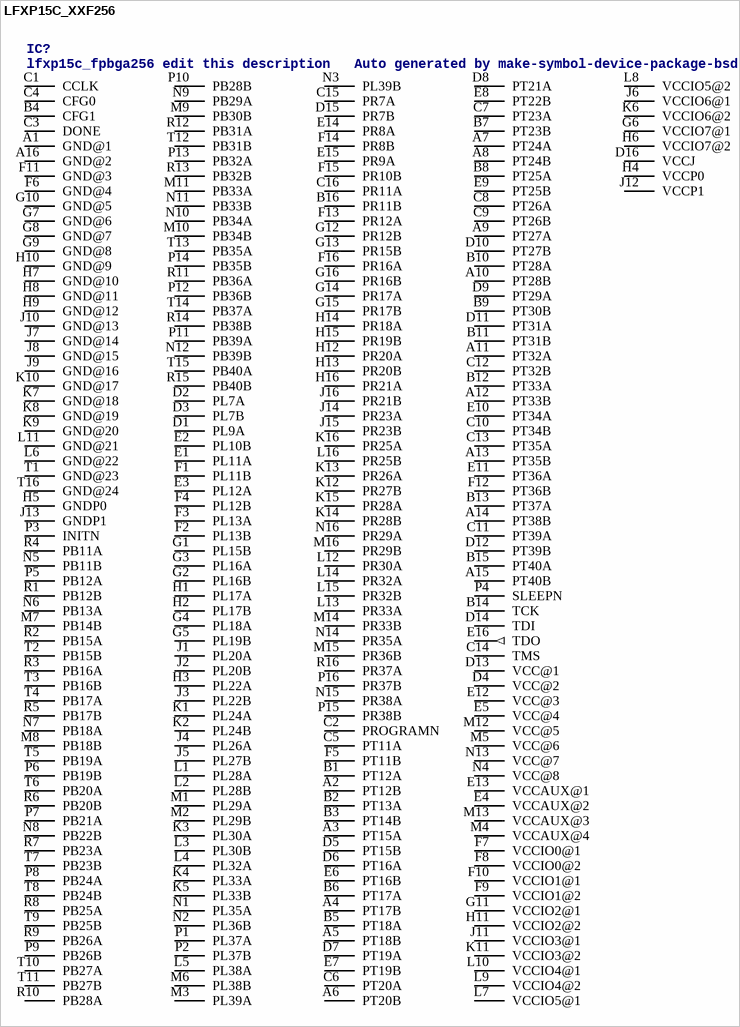
[diagram p12: symbol LFXP15C_XXF256]